# Altium schematic symbol library ADI.SchLib: 40 symbols
Pins are listed as number, name and electrical type; pins without a type are passive.

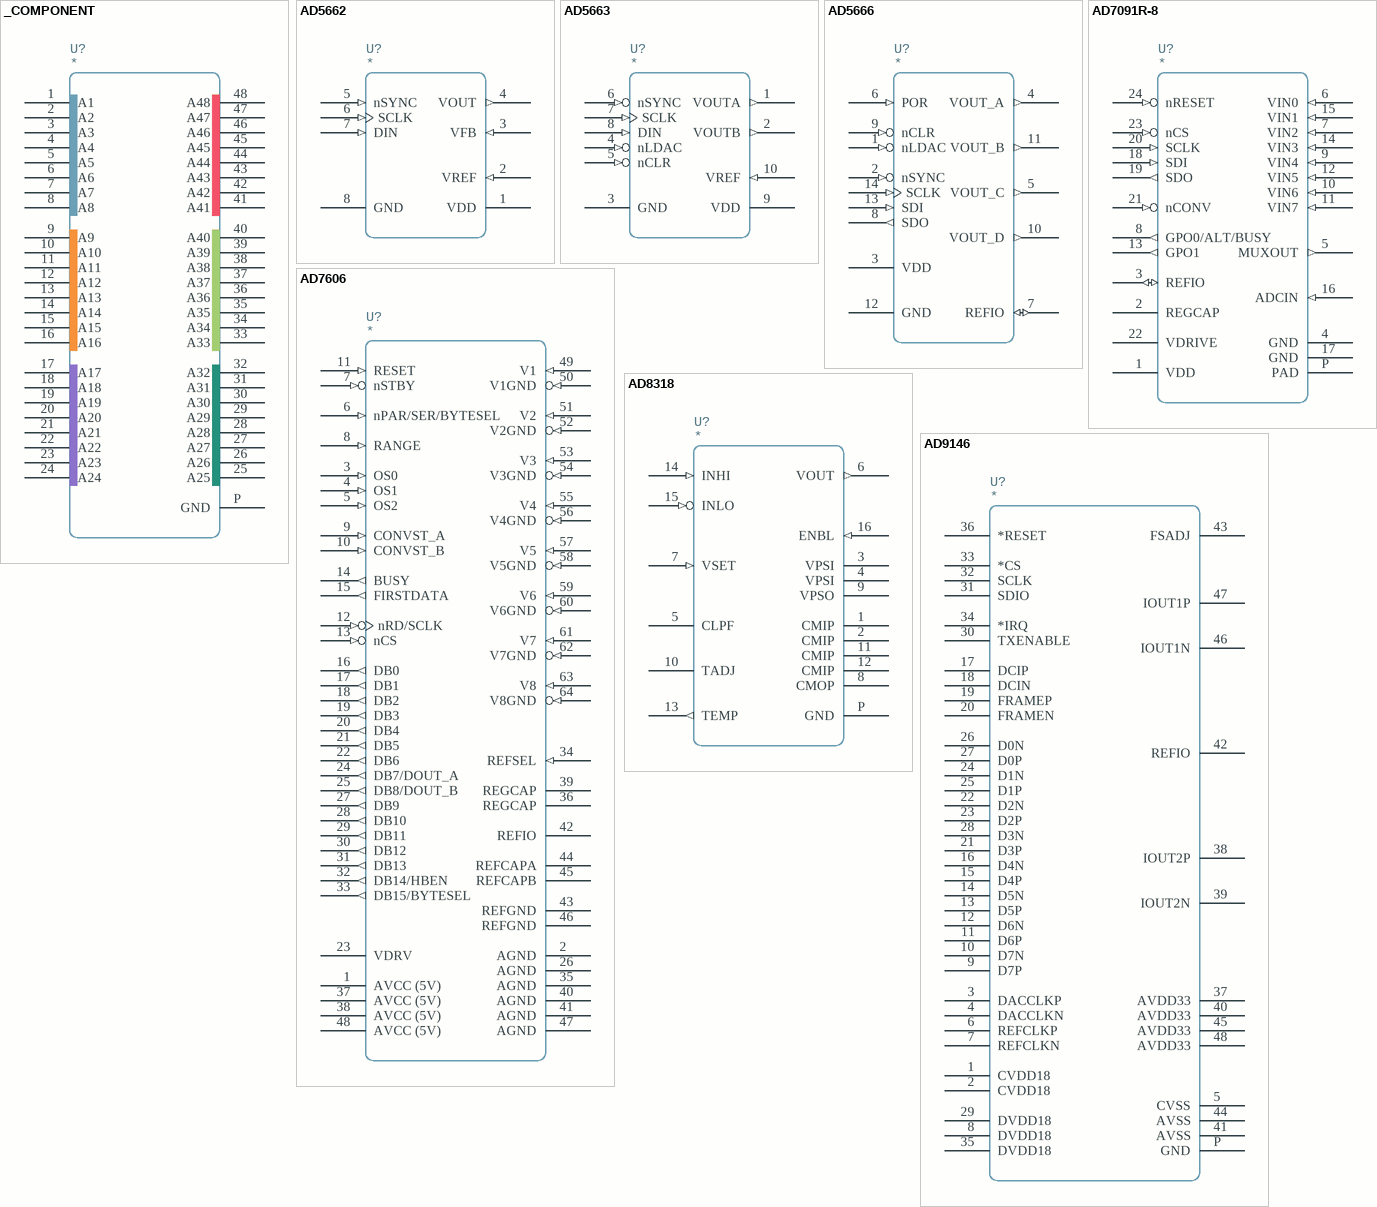
[diagram p0: symbols _COMPONENT to AD9146]

## _COMPONENT
designator U?
pins: 1 A1, 2 A2, 3 A3, 4 A4, 5 A5, 6 A6, 7 A7, 8 A8, 9 A9, 10 A10, 11 A11, 12 A12, 13 A13, 14 A14, 15 A15, 16 A16, 17 A17, 18 A18, 19 A19, 20 A20, 21 A21, 22 A22, 23 A23, 24 A24, 25 A25, 26 A26, 27 A27, 28 A28, 29 A29, 30 A30, 31 A31, 32 A32, 33 A33, 34 A34, 35 A35, 36 A36, 37 A37, 38 A38, 39 A39, 40 A40, 41 A41, 42 A42, 43 A43, 44 A44, 45 A45, 46 A46, 47 A47, 48 A48, P GND

## AD5662
designator U?
Symbol Date: *
pins: 1 VDD, 2 VREF (in), 3 VFB (in), 4 VOUT (out), 5 nSYNC (in), 6 SCLK (in), 7 DIN (in), 8 GND

## AD5663
designator U?
Symbol Date: *
pins: 1 VOUTA (out), 2 VOUTB (out), 3 GND, 4 nLDAC (in), 5 nCLR (in), 6 nSYNC (in), 7 SCLK (in), 8 DIN (in), 9 VDD, 10 VREF (in)

## AD5666
designator U?
Symbol Date: *
pins: 1 nLDAC (in), 2 nSYNC (in), 3 VDD, 4 VOUT_A (out), 5 VOUT_C (out), 6 POR (in), 7 REFIO (io), 8 SDO (out), 9 nCLR (in), 10 VOUT_D (out), 11 VOUT_B (out), 12 GND, 13 SDI (in), 14 SCLK (in)

## AD7091R-8
designator U?
pins: 1 VDD, 2 REGCAP, 3 REFIO (io), 4 GND, 5 MUXOUT (out), 6 VIN0 (in), 7 VIN2 (in), 8 GPO0/ALT/BUSY (out), 9 VIN4 (in), 10 VIN6 (in), 11 VIN7 (in), 12 VIN5 (in), 13 GPO1 (out), 14 VIN3 (in), 15 VIN1 (in), 16 ADCIN (in), 17 GND, 18 SDI (in), 19 SDO (out), 20 SCLK (in), 21 nCONV (in), 22 VDRIVE, 23 nCS (in), 24 nRESET (in), P PAD

## AD7606
designator U?
Symbol Date: *
pins: 1 AVCC (5V), 2 AGND, 3 OS0 (in), 4 OS1 (in), 5 OS2 (in), 6 nPAR/SER/BYTESEL (in), 7 nSTBY (in), 8 RANGE (in), 9 CONVST_A (in), 10 CONVST_B (in), 11 RESET (in), 12 nRD/SCLK (in), 13 nCS (in), 14 BUSY (out), 15 FIRSTDATA (out), 16 DB0 (out), 17 DB1 (out), 18 DB2 (out), 19 DB3 (out), 20 DB4 (out), 21 DB5 (out), 22 DB6 (out), 23 VDRV, 24 DB7/DOUT_A (out), 25 DB8/DOUT_B (out), 26 AGND, 27 DB9 (out), 28 DB10 (out), 29 DB11 (out), 30 DB12 (out), 31 DB13 (out), 32 DB14/HBEN (out), 33 DB15/BYTESEL (out), 34 REFSEL (in), 35 AGND, 36 REGCAP, 37 AVCC (5V), 38 AVCC (5V), 39 REGCAP, 40 AGND, 41 AGND, 42 REFIO, 43 REFGND, 44 REFCAPA, 45 REFCAPB, 46 REFGND, 47 AGND, 48 AVCC (5V), 49 V1 (in), 50 V1GND (in), 51 V2 (in), 52 V2GND (in), 53 V3 (in), 54 V3GND (in), 55 V4 (in), 56 V4GND (in), 57 V5 (in), 58 V5GND (in), 59 V6 (in), 60 V6GND (in), 61 V7 (in), 62 V7GND (in), 63 V8 (in), 64 V8GND (in)

## AD8318
designator U?
pins: 1 CMIP, 2 CMIP, 3 VPSI (power), 4 VPSI (power), 5 CLPF, 6 VOUT (out), 7 VSET (in), 8 CMOP, 9 VPSO (power), 10 TADJ, 11 CMIP, 12 CMIP, 13 TEMP (out), 14 INHI (in), 15 INLO (in), 16 ENBL (in), P GND

## AD9146
designator U?
Symbol Date: *
pins: 1 CVDD18, 2 CVDD18, 3 DACCLKP, 4 DACCLKN, 5 CVSS, 6 REFCLKP, 7 REFCLKN, 8 DVDD18, 9 D7P, 10 D7N, 11 D6P, 12 D6N, 13 D5P, 14 D5N, 15 D4P, 16 D4N, 17 DCIP, 18 DCIN, 19 FRAMEP, 20 FRAMEN, 21 D3P, 22 D2N, 23 D2P, 24 D1N, 25 D1P, 26 D0N, 27 D0P, 28 D3N, 29 DVDD18, 30 TXENABLE, 31 SDIO, 32 SCLK, 33 *CS, 34 *IRQ, 35 DVDD18, 36 *RESET, 37 AVDD33, 38 IOUT2P, 39 IOUT2N, 40 AVDD33, 41 AVSS, 42 REFIO, 43 FSADJ, 44 AVSS, 45 AVDD33, 46 IOUT1N, 47 IOUT1P, 48 AVDD33, P GND

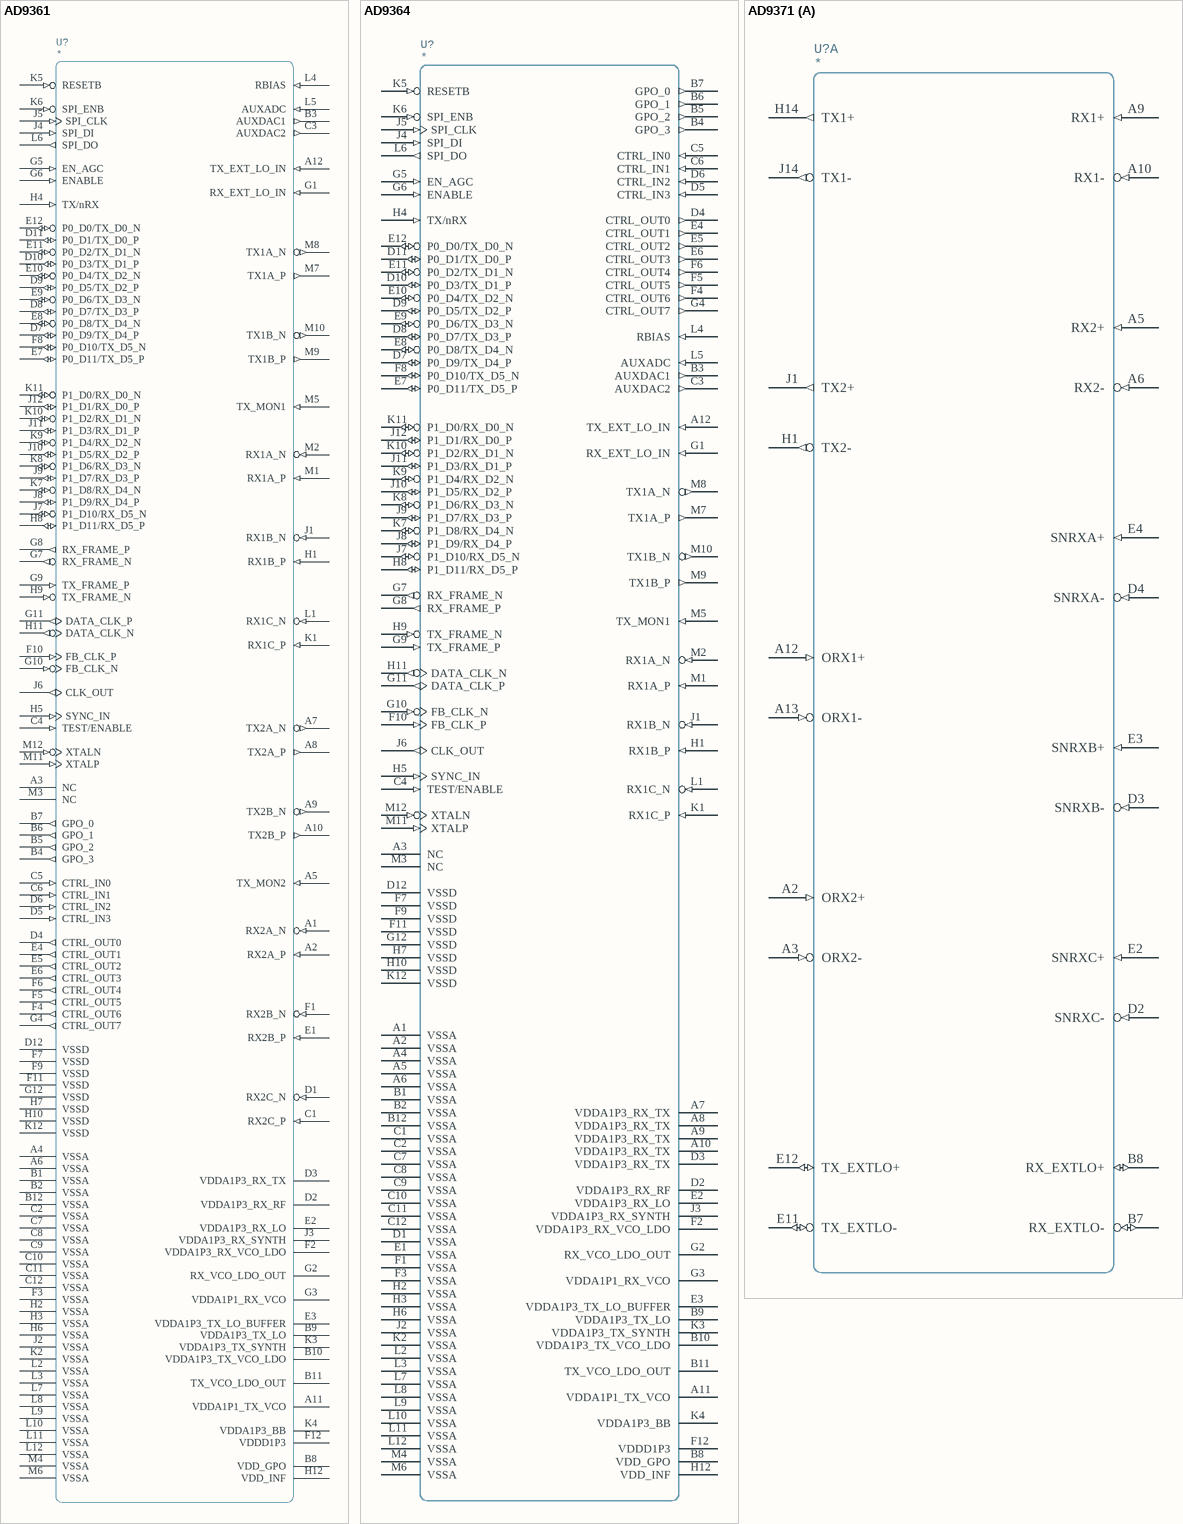
[diagram p1: symbols AD9361 to AD9371]

## AD9361
designator U?
Symbol Date: *
pins: A1 RX2A_N (in), A2 RX2A_P (in), A3 NC, A4 VSSA, A5 TX_MON2 (in), A6 VSSA, A7 TX2A_N (out), A8 TX2A_P (out), A9 TX2B_N (out), A10 TX2B_P (out), A11 VDDA1P1_TX_VCO, A12 TX_EXT_LO_IN (in), B1 VSSA, B2 VSSA, B3 AUXDAC1 (out), B4 GPO_3 (out), B5 GPO_2 (out), B6 GPO_1 (out), B7 GPO_0 (out), B8 VDD_GPO, B9 VDDA1P3_TX_LO, B10 VDDA1P3_TX_VCO_LDO, B11 TX_VCO_LDO_OUT, B12 VSSA, C1 RX2C_P (in), C2 VSSA, C3 AUXDAC2 (out), C4 TEST/ENABLE (in), C5 CTRL_IN0 (in), C6 CTRL_IN1 (in), C7 VSSA, C8 VSSA, C9 VSSA, C10 VSSA, C11 VSSA, C12 VSSA, D1 RX2C_N (in), D2 VDDA1P3_RX_RF, D3 VDDA1P3_RX_TX, D4 CTRL_OUT0 (out), D5 CTRL_IN3 (in), D6 CTRL_IN2 (in), D7 P0_D9/TX_D4_P (io), D8 P0_D7/TX_D3_P (io), D9 P0_D5/TX_D2_P (io), D10 P0_D3/TX_D1_P (io), D11 P0_D1/TX_D0_P (io), D12 VSSD, E1 RX2B_P (in), E2 VDDA1P3_RX_LO, E3 VDDA1P3_TX_LO_BUFFER, E4 CTRL_OUT1 (out), E5 CTRL_OUT2 (out), E6 CTRL_OUT3 (out), E7 P0_D11/TX_D5_P (io), E8 P0_D8/TX_D4_N (io), E9 P0_D6/TX_D3_N (io), E10 P0_D4/TX_D2_N (io), E11 P0_D2/TX_D1_N (io), E12 P0_D0/TX_D0_N (io), F1 RX2B_N (in), F2 VDDA1P3_RX_VCO_LDO, F3 VSSA, F4 CTRL_OUT6 (out), F5 CTRL_OUT5 (out), F6 CTRL_OUT4 (out), F7 VSSD, F8 P0_D10/TX_D5_N (io), F9 VSSD, F10 FB_CLK_P (in), F11 VSSD, F12 VDDD1P3, G1 RX_EXT_LO_IN (in), G2 RX_VCO_LDO_OUT, G3 VDDA1P1_RX_VCO, G4 CTRL_OUT7 (out), G5 EN_AGC (in), G6 ENABLE (in), G7 RX_FRAME_N (out), G8 RX_FRAME_P (out), G9 TX_FRAME_P (in), G10 FB_CLK_N (in), G11 DATA_CLK_P (out), G12 VSSD, H1 RX1B_P (in), H2 VSSA, H3 VSSA, H4 TX/nRX (in), H5 SYNC_IN (in), H6 VSSA, H7 VSSD, H8 P1_D11/RX_D5_P (io), H9 TX_FRAME_N (in), H10 VSSD, H11 DATA_CLK_N (out), H12 VDD_INF, J1 RX1B_N (in), J2 VSSA, J3 VDDA1P3_RX_SYNTH, J4 SPI_DI (in), J5 SPI_CLK (in), J6 CLK_OUT (out), J7 P1_D10/RX_D5_N (io), J8 P1_D9/RX_D4_P (io), J9 P1_D7/RX_D3_P (io), J10 P1_D5/RX_D2_P (io), J11 P1_D3/RX_D1_P (io), J12 P1_D1/RX_D0_P (io), K1 RX1C_P (in), K2 VSSA, K3 VDDA1P3_TX_SYNTH, K4 VDDA1P3_BB, K5 RESETB (in), K6 SPI_ENB (in), K7 P1_D8/RX_D4_N (io), K8 P1_D6/RX_D3_N (io), K9 P1_D4/RX_D2_N (io), K10 P1_D2/RX_D1_N (io), K11 P1_D0/RX_D0_N (io), K12 VSSD, L1 RX1C_N (in), L2 VSSA, L3 VSSA, L4 RBIAS (in), L5 AUXADC (in), L6 SPI_DO (out), L7 VSSA, L8 VSSA, L9 VSSA, L10 VSSA, L11 VSSA, L12 VSSA, M1 RX1A_P (in), M2 RX1A_N (in), M3 NC, M4 VSSA, M5 TX_MON1 (in), M6 VSSA, M7 TX1A_P (out), M8 TX1A_N (out), M9 TX1B_P (out), M10 TX1B_N (out), M11 XTALP (in), M12 XTALN (in)

## AD9364
designator U?
Symbol Date: *
pins: A1 VSSA, A2 VSSA, A3 NC, A4 VSSA, A5 VSSA, A6 VSSA, A7 VDDA1P3_RX_TX, A8 VDDA1P3_RX_TX, A9 VDDA1P3_RX_TX, A10 VDDA1P3_RX_TX, A11 VDDA1P1_TX_VCO, A12 TX_EXT_LO_IN (in), B1 VSSA, B2 VSSA, B3 AUXDAC1 (out), B4 GPO_3 (out), B5 GPO_2 (out), B6 GPO_1 (out), B7 GPO_0 (out), B8 VDD_GPO, B9 VDDA1P3_TX_LO, B10 VDDA1P3_TX_VCO_LDO, B11 TX_VCO_LDO_OUT, B12 VSSA, C1 VSSA, C2 VSSA, C3 AUXDAC2 (out), C4 TEST/ENABLE (in), C5 CTRL_IN0 (in), C6 CTRL_IN1 (in), C7 VSSA, C8 VSSA, C9 VSSA, C10 VSSA, C11 VSSA, C12 VSSA, D1 VSSA, D2 VDDA1P3_RX_RF, D3 VDDA1P3_RX_TX, D4 CTRL_OUT0 (out), D5 CTRL_IN3 (in), D6 CTRL_IN2 (in), D7 P0_D9/TX_D4_P (io), D8 P0_D7/TX_D3_P (io), D9 P0_D5/TX_D2_P (io), D10 P0_D3/TX_D1_P (io), D11 P0_D1/TX_D0_P (io), D12 VSSD, E1 VSSA, E2 VDDA1P3_RX_LO, E3 VDDA1P3_TX_LO_BUFFER, E4 CTRL_OUT1 (out), E5 CTRL_OUT2 (out), E6 CTRL_OUT3 (out), E7 P0_D11/TX_D5_P (io), E8 P0_D8/TX_D4_N (io), E9 P0_D6/TX_D3_N (io), E10 P0_D4/TX_D2_N (io), E11 P0_D2/TX_D1_N (io), E12 P0_D0/TX_D0_N (io), F1 VSSA, F2 VDDA1P3_RX_VCO_LDO, F3 VSSA, F4 CTRL_OUT6 (out), F5 CTRL_OUT5 (out), F6 CTRL_OUT4 (out), F7 VSSD, F8 P0_D10/TX_D5_N (io), F9 VSSD, F10 FB_CLK_P (in), F11 VSSD, F12 VDDD1P3, G1 RX_EXT_LO_IN (in), G2 RX_VCO_LDO_OUT, G3 VDDA1P1_RX_VCO, G4 CTRL_OUT7 (out), G5 EN_AGC (in), G6 ENABLE (in), G7 RX_FRAME_N (out), G8 RX_FRAME_P (out), G9 TX_FRAME_P (in), G10 FB_CLK_N (in), G11 DATA_CLK_P (out), G12 VSSD, H1 RX1B_P (in), H2 VSSA, H3 VSSA, H4 TX/nRX (in), H5 SYNC_IN (in), H6 VSSA, H7 VSSD, H8 P1_D11/RX_D5_P (io), H9 TX_FRAME_N (in), H10 VSSD, H11 DATA_CLK_N (out), H12 VDD_INF, J1 RX1B_N (in), J2 VSSA, J3 VDDA1P3_RX_SYNTH, J4 SPI_DI (in), J5 SPI_CLK (in), J6 CLK_OUT (out), J7 P1_D10/RX_D5_N (io), J8 P1_D9/RX_D4_P (io), J9 P1_D7/RX_D3_P (io), J10 P1_D5/RX_D2_P (io), J11 P1_D3/RX_D1_P (io), J12 P1_D1/RX_D0_P (io), K1 RX1C_P (in), K2 VSSA, K3 VDDA1P3_TX_SYNTH, K4 VDDA1P3_BB, K5 RESETB (in), K6 SPI_ENB (in), K7 P1_D8/RX_D4_N (io), K8 P1_D6/RX_D3_N (io), K9 P1_D4/RX_D2_N (io), K10 P1_D2/RX_D1_N (io), K11 P1_D0/RX_D0_N (io), K12 VSSD, L1 RX1C_N (in), L2 VSSA, L3 VSSA, L4 RBIAS (in), L5 AUXADC (in), L6 SPI_DO (out), L7 VSSA, L8 VSSA, L9 VSSA, L10 VSSA, L11 VSSA, L12 VSSA, M1 RX1A_P (in), M2 RX1A_N (in), M3 NC, M4 VSSA, M5 TX_MON1 (in), M6 VSSA, M7 TX1A_P (out), M8 TX1A_N (out), M9 TX1B_P (out), M10 TX1B_N (out), M11 XTALP (in), M12 XTALN (in)

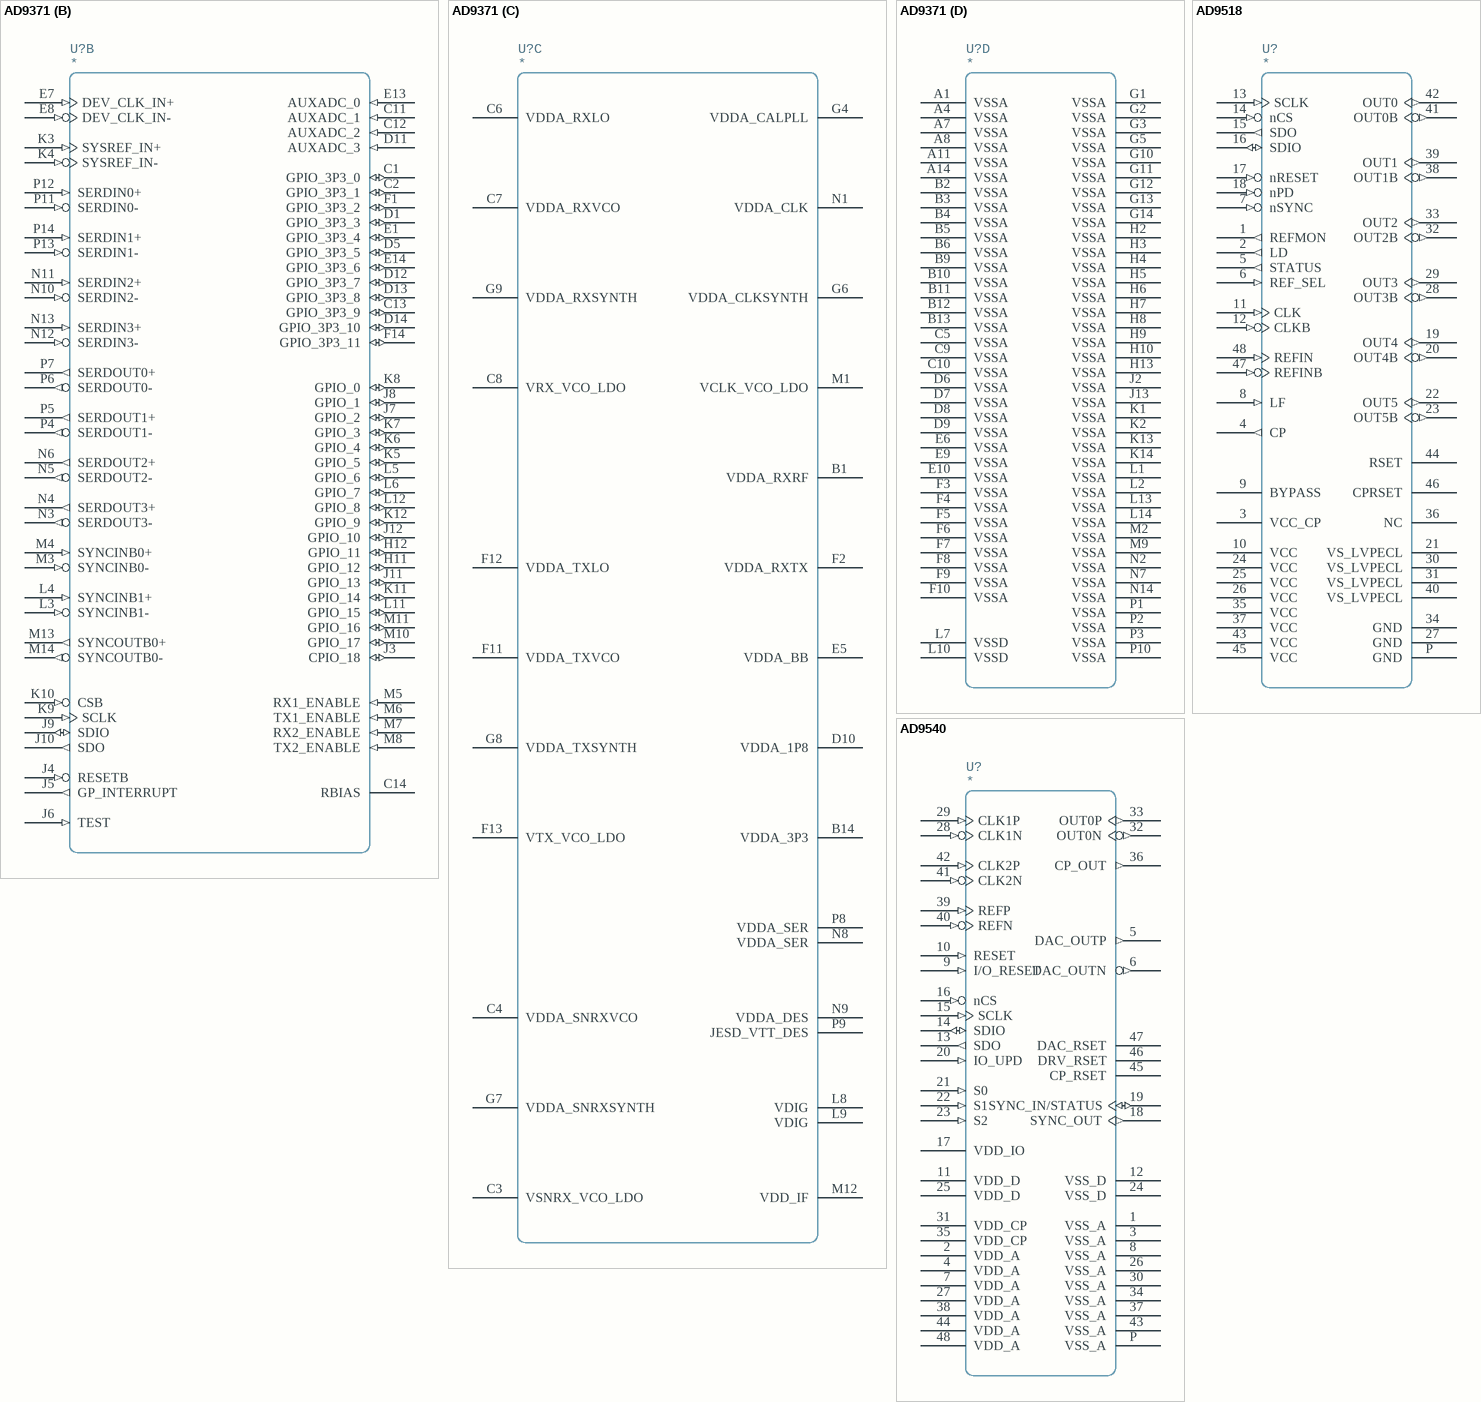
[diagram p2: symbols AD9371 to AD9540]

## AD9371
designator U?
part A pins: A2 ORX2+ (in), A3 ORX2- (in), A5 RX2+ (in), A6 RX2- (in), A9 RX1+ (in), A10 RX1- (in), A12 ORX1+ (in), A13 ORX1- (in), B7 RX_EXTLO- (io), B8 RX_EXTLO+ (io), D2 SNRXC- (in), D3 SNRXB- (in), D4 SNRXA- (in), E2 SNRXC+ (in), E3 SNRXB+ (in), E4 SNRXA+ (in), E11 TX_EXTLO- (io), E12 TX_EXTLO+ (io), H1 TX2- (out), H14 TX1+ (out), J1 TX2+ (out), J14 TX1- (out)
part B pins: C1 GPIO_3P3_0 (io), C2 GPIO_3P3_1 (io), C11 AUXADC_1 (in), C12 AUXADC_2 (in), C13 GPIO_3P3_9 (io), C14 RBIAS, D1 GPIO_3P3_3 (io), D5 GPIO_3P3_5 (io), D11 AUXADC_3 (in), D12 GPIO_3P3_7 (io), D13 GPIO_3P3_8 (io), D14 GPIO_3P3_10 (io), E1 GPIO_3P3_4 (io), E7 DEV_CLK_IN+ (in), E8 DEV_CLK_IN- (in), E13 AUXADC_0 (in), E14 GPIO_3P3_6 (io), F1 GPIO_3P3_2 (io), F14 GPIO_3P3_11 (io), H11 GPIO_12 (io), H12 GPIO_11 (io), J3 CPIO_18 (io), J4 RESETB (in), J5 GP_INTERRUPT (out), J6 TEST (in), J7 GPIO_2 (io), J8 GPIO_1 (io), J9 SDIO (io), J10 SDO (out), J11 GPIO_13 (io), J12 GPIO_10 (io), K3 SYSREF_IN+ (in), K4 SYSREF_IN- (in), K5 GPIO_5 (io), K6 GPIO_4 (io), K7 GPIO_3 (io), K8 GPIO_0 (io), K9 SCLK (in), K10 CSB (in), K11 GPIO_14 (io), K12 GPIO_9 (io), L3 SYNCINB1- (in), L4 SYNCINB1+ (in), L5 GPIO_6 (io), L6 GPIO_7 (io), L11 GPIO_15 (io), L12 GPIO_8 (io), M3 SYNCINB0- (in), M4 SYNCINB0+ (in), M5 RX1_ENABLE (in), M6 TX1_ENABLE (in), M7 RX2_ENABLE (in), M8 TX2_ENABLE (in), M10 GPIO_17 (io), M11 GPIO_16 (io), M13 SYNCOUTB0+ (out), M14 SYNCOUTB0- (out), N3 SERDOUT3- (out), N4 SERDOUT3+ (out), N5 SERDOUT2- (out), N6 SERDOUT2+ (out), N10 SERDIN2- (in), N11 SERDIN2+ (in), N12 SERDIN3- (in), N13 SERDIN3+ (in), P4 SERDOUT1- (out), P5 SERDOUT1+ (out), P6 SERDOUT0- (out), P7 SERDOUT0+ (out), P11 SERDIN0- (in), P12 SERDIN0+ (in), P13 SERDIN1- (in), P14 SERDIN1+ (in)
part C pins: B1 VDDA_RXRF, B14 VDDA_3P3, C3 VSNRX_VCO_LDO, C4 VDDA_SNRXVCO, C6 VDDA_RXLO, C7 VDDA_RXVCO, C8 VRX_VCO_LDO, D10 VDDA_1P8, E5 VDDA_BB, F2 VDDA_RXTX, F11 VDDA_TXVCO, F12 VDDA_TXLO, F13 VTX_VCO_LDO, G4 VDDA_CALPLL, G6 VDDA_CLKSYNTH, G7 VDDA_SNRXSYNTH, G8 VDDA_TXSYNTH, G9 VDDA_RXSYNTH, L8 VDIG, L9 VDIG, M1 VCLK_VCO_LDO, M12 VDD_IF, N1 VDDA_CLK, N8 VDDA_SER, N9 VDDA_DES, P8 VDDA_SER, P9 JESD_VTT_DES
part D pins: A1 VSSA, A4 VSSA, A7 VSSA, A8 VSSA, A11 VSSA, A14 VSSA, B2 VSSA, B3 VSSA, B4 VSSA, B5 VSSA, B6 VSSA, B9 VSSA, B10 VSSA, B11 VSSA, B12 VSSA, B13 VSSA, C5 VSSA, C9 VSSA, C10 VSSA, D6 VSSA, D7 VSSA, D8 VSSA, D9 VSSA, E6 VSSA, E9 VSSA, E10 VSSA, F3 VSSA, F4 VSSA, F5 VSSA, F6 VSSA, F7 VSSA, F8 VSSA, F9 VSSA, F10 VSSA, G1 VSSA, G2 VSSA, G3 VSSA, G5 VSSA, G10 VSSA, G11 VSSA, G12 VSSA, G13 VSSA, G14 VSSA, H2 VSSA, H3 VSSA, H4 VSSA, H5 VSSA, H6 VSSA, H7 VSSA, H8 VSSA, H9 VSSA, H10 VSSA, H13 VSSA, J2 VSSA, J13 VSSA, K1 VSSA, K2 VSSA, K13 VSSA, K14 VSSA, L1 VSSA, L2 VSSA, L7 VSSD, L10 VSSD, L13 VSSA, L14 VSSA, M2 VSSA, M9 VSSA, N2 VSSA, N7 VSSA, N14 VSSA, P1 VSSA, P2 VSSA, P3 VSSA, P10 VSSA

## AD9518
designator U?
Symbol Date: *
pins: 1 REFMON (out), 2 LD (out), 3 VCC_CP, 4 CP (out), 5 STATUS (out), 6 REF_SEL (in), 7 nSYNC (in), 8 LF (in), 9 BYPASS, 10 VCC, 11 CLK (in), 12 CLKB (in), 13 SCLK (in), 14 nCS (in), 15 SDO (out), 16 SDIO (io), 17 nRESET (in), 18 nPD (in), 19 OUT4 (out), 20 OUT4B (out), 21 VS_LVPECL, 22 OUT5 (out), 23 OUT5B (out), 24 VCC, 25 VCC, 26 VCC, 27 GND, 28 OUT3B (out), 29 OUT3 (out), 30 VS_LVPECL, 31 VS_LVPECL, 32 OUT2B (out), 33 OUT2 (out), 34 GND, 35 VCC, 36 NC, 37 VCC, 38 OUT1B (out), 39 OUT1 (out), 40 VS_LVPECL, 41 OUT0B (out), 42 OUT0 (out), 43 VCC, 44 RSET, 45 VCC, 46 CPRSET, 47 REFINB (in), 48 REFIN (in), P GND

## AD9540
designator U?
Symbol Date: *
pins: 1 VSS_A, 2 VDD_A, 3 VSS_A, 4 VDD_A, 5 DAC_OUTP (out), 6 DAC_OUTN (out), 7 VDD_A, 8 VSS_A, 9 I/O_RESET (in), 10 RESET (in), 11 VDD_D, 12 VSS_D, 13 SDO (out), 14 SDIO (io), 15 SCLK (in), 16 nCS (in), 17 VDD_IO, 18 SYNC_OUT (out), 19 SYNC_IN/STATUS (io), 20 IO_UPD (in), 21 S0 (in), 22 S1 (in), 23 S2 (in), 24 VSS_D, 25 VDD_D, 26 VSS_A, 27 VDD_A, 28 CLK1N (in), 29 CLK1P (in), 30 VSS_A, 31 VDD_CP, 32 OUT0N (out), 33 OUT0P (out), 34 VSS_A, 35 VDD_CP, 36 CP_OUT (out), 37 VSS_A, 38 VDD_A, 39 REFP (in), 40 REFN (in), 41 CLK2N (in), 42 CLK2P (in), 43 VSS_A, 44 VDD_A, 45 CP_RSET, 46 DRV_RSET, 47 DAC_RSET, 48 VDD_A, P VSS_A

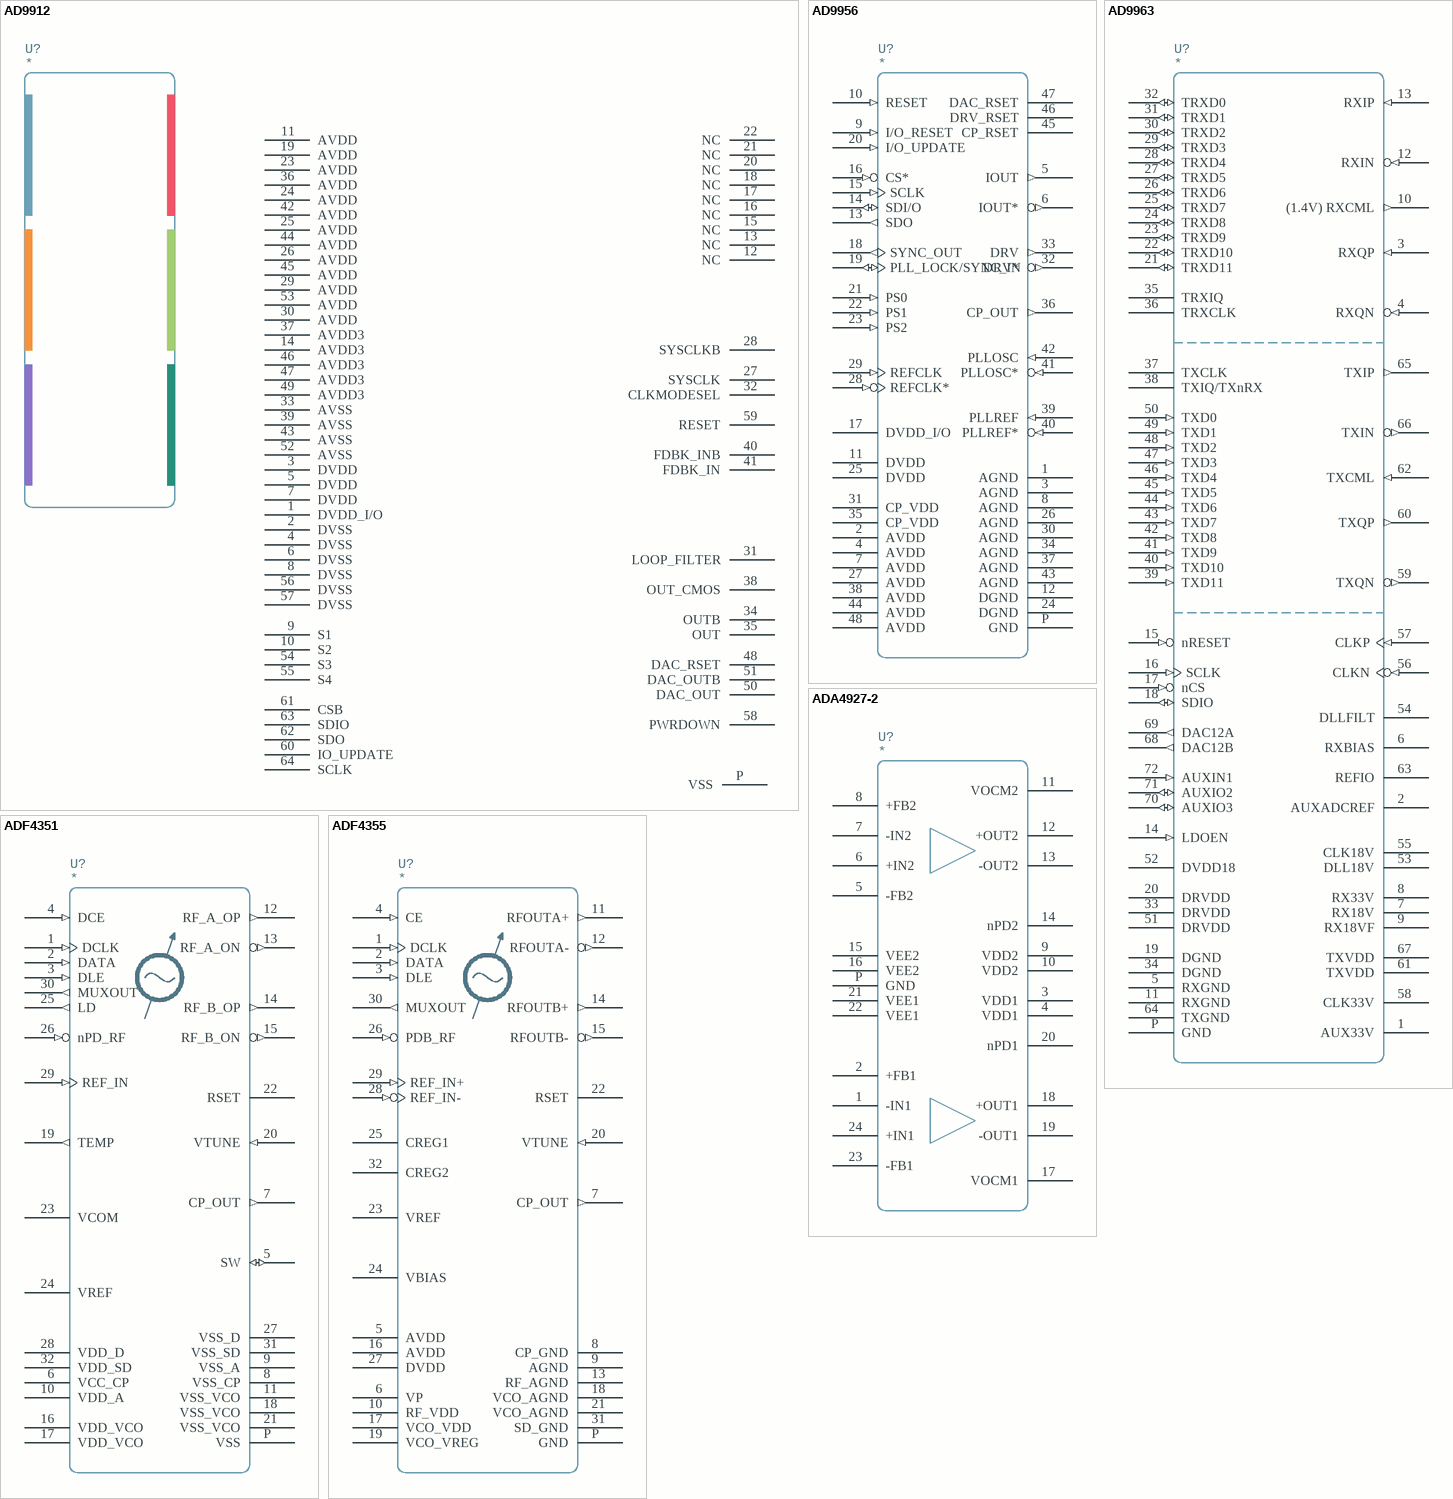
[diagram p3: symbols AD9912 to ADF4355]

## AD9912
designator U?
pins: 1 DVDD_I/O, 2 DVSS, 3 DVDD, 4 DVSS, 5 DVDD, 6 DVSS, 7 DVDD, 8 DVSS, 9 S1, 10 S2, 11 AVDD, 12 NC, 13 NC, 14 AVDD3, 15 NC, 16 NC, 17 NC, 18 NC, 19 AVDD, 20 NC, 21 NC, 22 NC, 23 AVDD, 24 AVDD, 25 AVDD, 26 AVDD, 27 SYSCLK, 28 SYSCLKB, 29 AVDD, 30 AVDD, 31 LOOP_FILTER, 32 CLKMODESEL, 33 AVSS, 34 OUTB, 35 OUT, 36 AVDD, 37 AVDD3, 38 OUT_CMOS, 39 AVSS, 40 FDBK_INB, 41 FDBK_IN, 42 AVDD, 43 AVSS, 44 AVDD, 45 AVDD, 46 AVDD3, 47 AVDD3, 48 DAC_RSET, 49 AVDD3, 50 DAC_OUT, 51 DAC_OUTB, 52 AVSS, 53 AVDD, 54 S3, 55 S4, 56 DVSS, 57 DVSS, 58 PWRDOWN, 59 RESET, 60 IO_UPDATE, 61 CSB, 62 SDO, 63 SDIO, 64 SCLK, P VSS

## AD9956
designator U?
Symbol Date: *
pins: 1 AGND, 2 AVDD (power), 3 AGND, 4 AVDD (power), 5 IOUT (out), 6 IOUT* (out), 7 AVDD (power), 8 AGND, 9 I/O_RESET (in), 10 RESET (in), 11 DVDD (power), 12 DGND, 13 SDO (out), 14 SDI/O (io), 15 SCLK (in), 16 CS* (in), 17 DVDD_I/O (power), 18 SYNC_OUT (out), 19 PLL_LOCK/SYNC_IN (io), 20 I/O_UPDATE (in), 21 PS0 (in), 22 PS1 (in), 23 PS2 (in), 24 DGND, 25 DVDD (power), 26 AGND, 27 AVDD (power), 28 REFCLK* (in), 29 REFCLK (in), 30 AGND, 31 CP_VDD (power), 32 DRV* (out), 33 DRV (out), 34 AGND, 35 CP_VDD (power), 36 CP_OUT (out), 37 AGND, 38 AVDD (power), 39 PLLREF (in), 40 PLLREF* (in), 41 PLLOSC* (in), 42 PLLOSC (in), 43 AGND, 44 AVDD (power), 45 CP_RSET, 46 DRV_RSET, 47 DAC_RSET, 48 AVDD (power), P GND

## AD9963
designator U?
Symbol Date: *
pins: 1 AUX33V, 2 AUXADCREF, 3 RXQP (in), 4 RXQN (in), 5 RXGND, 6 RXBIAS, 7 RX18V, 8 RX33V, 9 RX18VF, 10 (1.4V) RXCML (out), 11 RXGND, 12 RXIN (in), 13 RXIP (in), 14 LDOEN (in), 15 nRESET (in), 16 SCLK (in), 17 nCS (in), 18 SDIO (io), 19 DGND, 20 DRVDD, 21 TRXD11 (io), 22 TRXD10 (io), 23 TRXD9 (io), 24 TRXD8 (io), 25 TRXD7 (io), 26 TRXD6 (io), 27 TRXD5 (io), 28 TRXD4 (io), 29 TRXD3 (io), 30 TRXD2 (io), 31 TRXD1 (io), 32 TRXD0 (io), 33 DRVDD, 34 DGND, 35 TRXIQ, 36 TRXCLK, 37 TXCLK, 38 TXIQ/TXnRX, 39 TXD11 (in), 40 TXD10 (in), 41 TXD9 (in), 42 TXD8 (in), 43 TXD7 (in), 44 TXD6 (in), 45 TXD5 (in), 46 TXD4 (in), 47 TXD3 (in), 48 TXD2 (in), 49 TXD1 (in), 50 TXD0 (in), 51 DRVDD, 52 DVDD18, 53 DLL18V, 54 DLLFILT, 55 CLK18V, 56 CLKN (in), 57 CLKP (in), 58 CLK33V, 59 TXQN (out), 60 TXQP (out), 61 TXVDD, 62 TXCML (in), 63 REFIO, 64 TXGND, 65 TXIP (out), 66 TXIN (out), 67 TXVDD, 68 DAC12B (out), 69 DAC12A (out), 70 AUXIO3 (io), 71 AUXIO2 (io), 72 AUXIN1 (in), P GND

## ADA4927-2
designator U?
IC,SM,ADA4927-2YCPZ,DIFFERENTIAL ADC DRIVER,DUAL,24LFCSP_VQH=.039IN
footprint QFN-4-24
pins: 1 -IN1, 2 +FB1, 3 VDD1, 4 VDD1, 5 -FB2, 6 +IN2, 7 -IN2, 8 +FB2, 9 VDD2, 10 VDD2, 11 VOCM2, 12 +OUT2, 13 -OUT2, 14 nPD2, 15 VEE2, 16 VEE2, 17 VOCM1, 18 +OUT1, 19 -OUT1, 20 nPD1, 21 VEE1, 22 VEE1, 23 -FB1, 24 +IN1, P GND

## ADF4351
designator U?
Symbol Date: *
pins: 1 DCLK (in), 2 DATA (in), 3 DLE (in), 4 DCE (in), 5 SW (io), 6 VCC_CP, 7 CP_OUT (out), 8 VSS_CP, 9 VSS_A, 10 VDD_A, 11 VSS_VCO, 12 RF_A_OP (out), 13 RF_A_ON (out), 14 RF_B_OP (out), 15 RF_B_ON (out), 16 VDD_VCO, 17 VDD_VCO, 18 VSS_VCO, 19 TEMP (out), 20 VTUNE (in), 21 VSS_VCO, 22 RSET, 23 VCOM, 24 VREF, 25 LD (out), 26 nPD_RF (in), 27 VSS_D, 28 VDD_D, 29 REF_IN (in), 30 MUXOUT (out), 31 VSS_SD, 32 VDD_SD, P VSS
2 alternate drawings of the same symbol

## ADF4355
designator U?
Symbol Date: *
pins: 1 DCLK (in), 2 DATA (in), 3 DLE (in), 4 CE (in), 5 AVDD, 6 VP, 7 CP_OUT (out), 8 CP_GND, 9 AGND, 10 RF_VDD, 11 RFOUTA+ (out), 12 RFOUTA- (out), 13 RF_AGND, 14 RFOUTB+ (out), 15 RFOUTB- (out), 16 AVDD, 17 VCO_VDD, 18 VCO_AGND, 19 VCO_VREG, 20 VTUNE (in), 21 VCO_AGND, 22 RSET, 23 VREF, 24 VBIAS, 25 CREG1, 26 PDB_RF (in), 27 DVDD, 28 REF_IN- (in), 29 REF_IN+ (in), 30 MUXOUT (out), 31 SD_GND, 32 CREG2, P GND

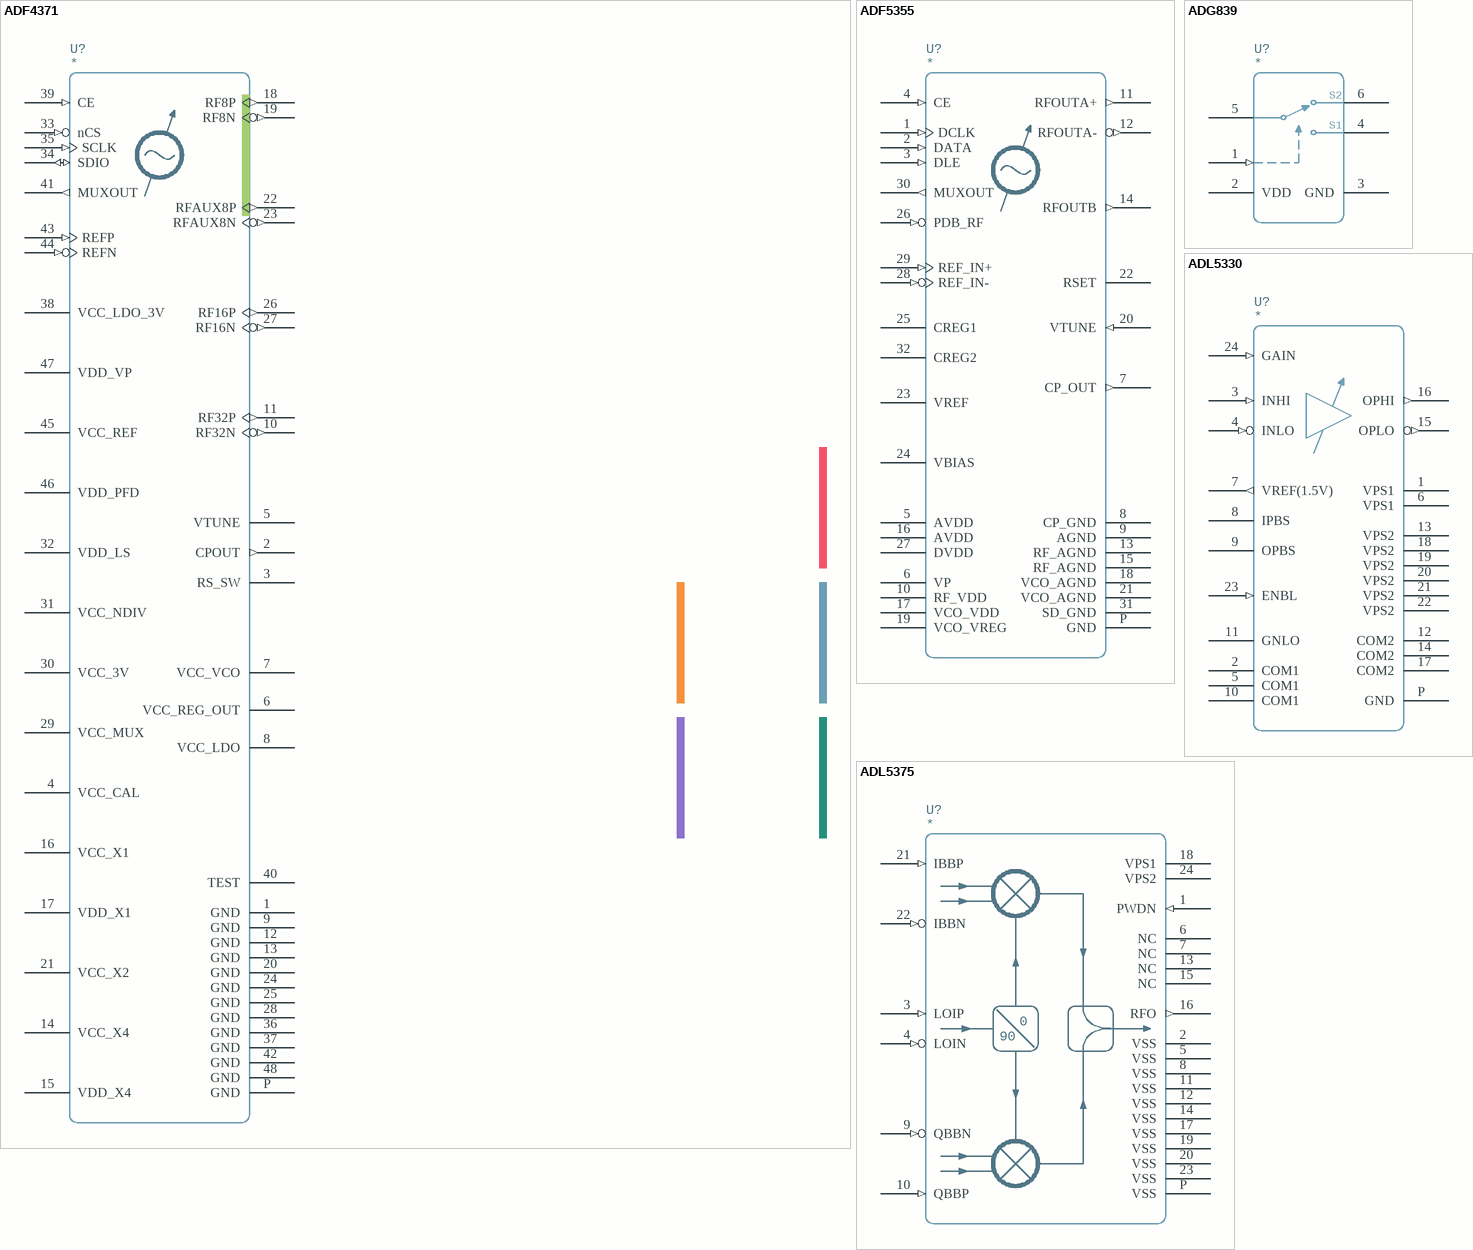
[diagram p4: symbols ADF4371 to ADL5375]

## ADF4371
designator U?
pins: 1 GND, 2 CPOUT (out), 3 RS_SW, 4 VCC_CAL, 5 VTUNE, 6 VCC_REG_OUT, 7 VCC_VCO, 8 VCC_LDO, 9 GND, 10 RF32N (out), 11 RF32P (out), 12 GND, 13 GND, 14 VCC_X4, 15 VDD_X4, 16 VCC_X1, 17 VDD_X1, 18 RF8P (out), 19 RF8N (out), 20 GND, 21 VCC_X2, 22 RFAUX8P (out), 23 RFAUX8N (out), 24 GND, 25 GND, 26 RF16P (out), 27 RF16N (out), 28 GND, 29 VCC_MUX, 30 VCC_3V, 31 VCC_NDIV, 32 VDD_LS, 33 nCS (in), 34 SDIO (io), 35 SCLK (in), 36 GND, 37 GND, 38 VCC_LDO_3V, 39 CE (in), 40 TEST, 41 MUXOUT (out), 42 GND, 43 REFP (in), 44 REFN (in), 45 VCC_REF, 46 VDD_PFD, 47 VDD_VP, 48 GND, P GND

## ADF5355
designator U?
Symbol Date: *
pins: 1 DCLK (in), 2 DATA (in), 3 DLE (in), 4 CE (in), 5 AVDD, 6 VP, 7 CP_OUT (out), 8 CP_GND, 9 AGND, 10 RF_VDD, 11 RFOUTA+ (out), 12 RFOUTA- (out), 13 RF_AGND, 14 RFOUTB (out), 15 RF_AGND, 16 AVDD, 17 VCO_VDD, 18 VCO_AGND, 19 VCO_VREG, 20 VTUNE (in), 21 VCO_AGND, 22 RSET, 23 VREF, 24 VBIAS, 25 CREG1, 26 PDB_RF (in), 27 DVDD, 28 REF_IN- (in), 29 REF_IN+ (in), 30 MUXOUT (out), 31 SD_GND, 32 CREG2, P GND

## ADG839
designator U?
pins: 1 IN (in), 2 VDD, 3 GND, 4 S1, 5 D, 6 S2

## ADL5330
designator U?
pins: 1 VPS1, 2 COM1, 3 INHI (in), 4 INLO (in), 5 COM1, 6 VPS1, 7 VREF(1.5V) (out), 8 IPBS, 9 OPBS, 10 COM1, 11 GNLO, 12 COM2, 13 VPS2, 14 COM2, 15 OPLO (out), 16 OPHI (out), 17 COM2, 18 VPS2, 19 VPS2, 20 VPS2, 21 VPS2, 22 VPS2, 23 ENBL (in), 24 GAIN (in), P GND

## ADL5375
designator U?
IC,SM,ADL5375-05ACPZ,BROADBAND QUADRATURE MODULATOR,400MHZ-6GHZ,24LFCSP,H=.039IN
pins: 1 PWDN (in), 2 VSS, 3 LOIP (in), 4 LOIN (in), 5 VSS, 6 NC, 7 NC, 8 VSS, 9 QBBN (in), 10 QBBP (in), 11 VSS, 12 VSS, 13 NC, 14 VSS, 15 NC, 16 RFO (out), 17 VSS, 18 VPS1, 19 VSS, 20 VSS, 21 IBBP (in), 22 IBBN (in), 23 VSS, 24 VPS2, P VSS
text: 0; 90

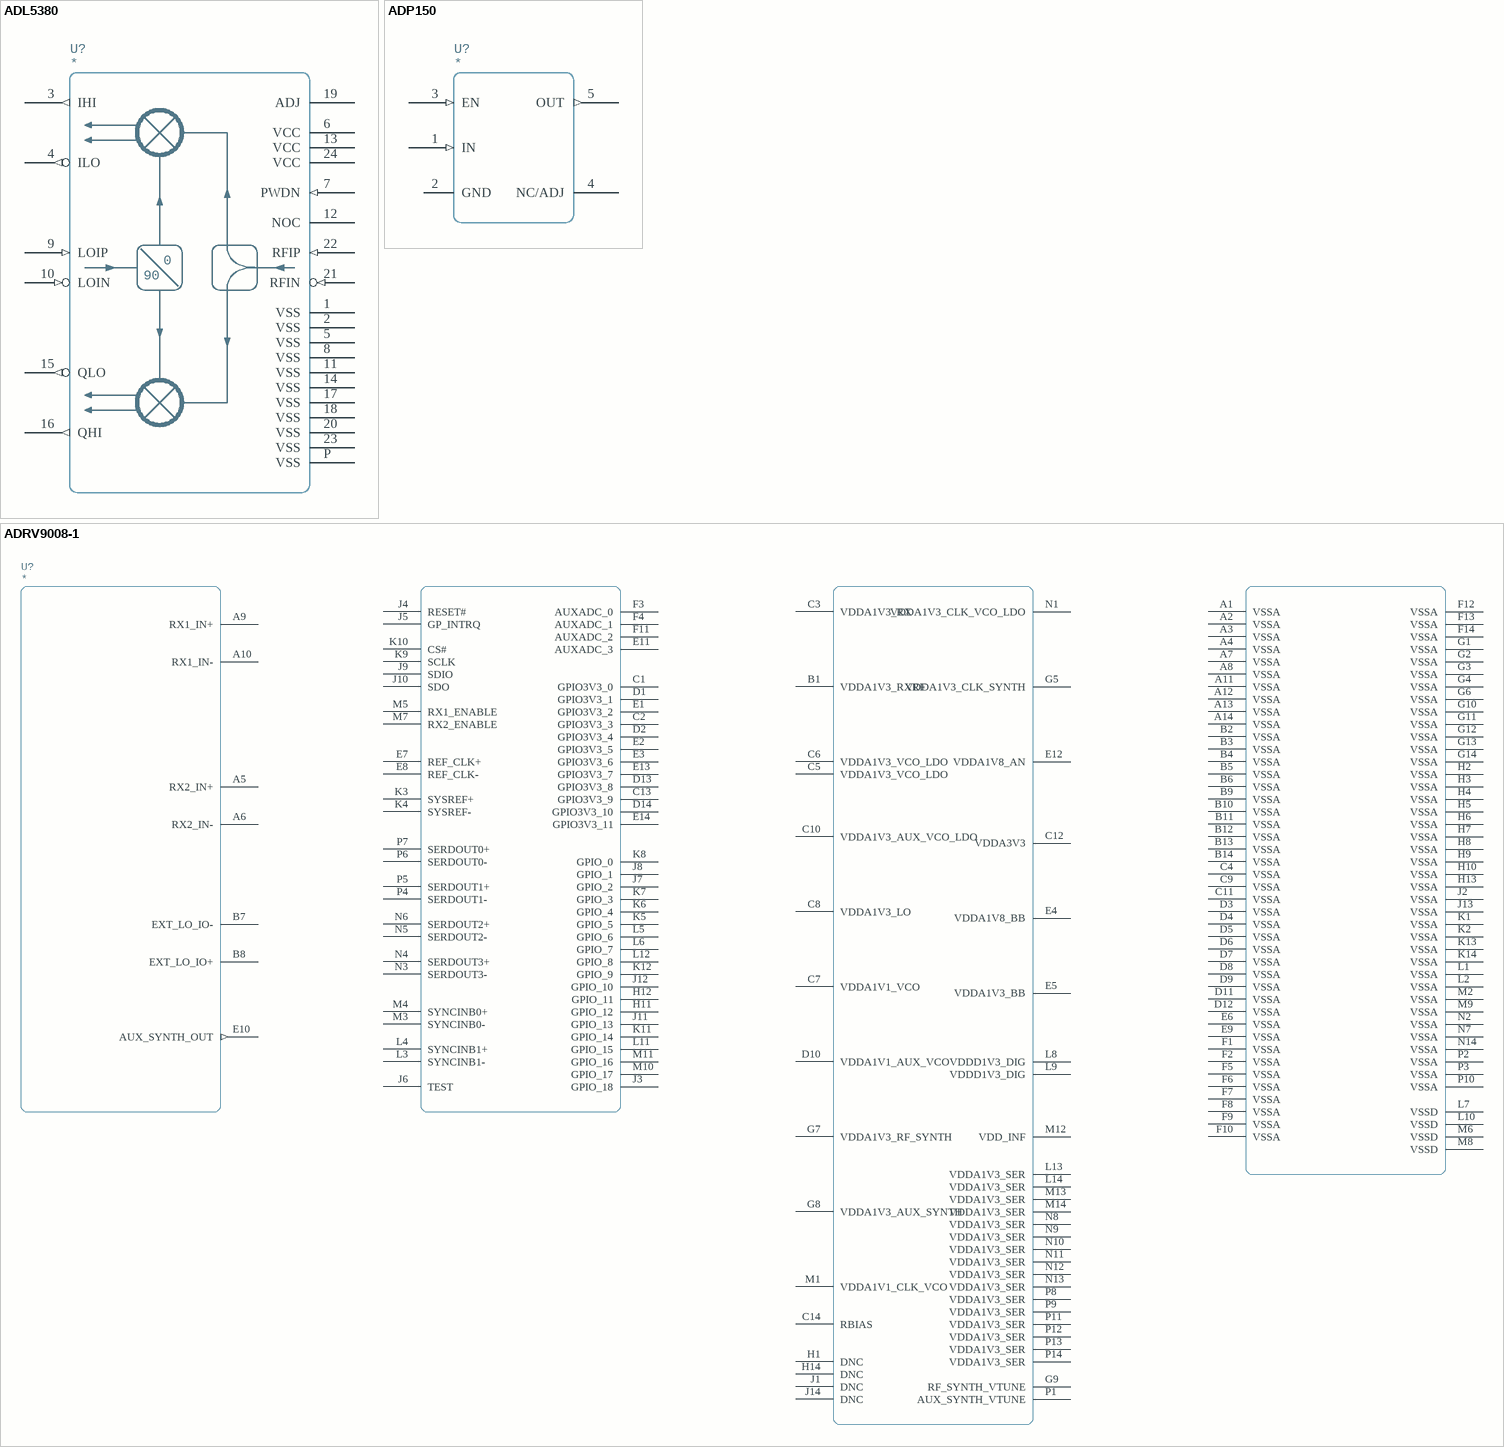
[diagram p5: symbols ADL5380 to ADRV9008-1]

## ADL5380
designator U?
IC,SM,ADL5380ACPZ,BROADBAND QUADRATURE DEMODULATOR,400MHZ-6GHZ,24LFCSP,H=.039IN
pins: 1 VSS, 2 VSS, 3 IHI (out), 4 ILO (out), 5 VSS, 6 VCC, 7 PWDN (in), 8 VSS, 9 LOIP (in), 10 LOIN (in), 11 VSS, 12 NOC, 13 VCC, 14 VSS, 15 QLO (out), 16 QHI (out), 17 VSS, 18 VSS, 19 ADJ, 20 VSS, 21 RFIN (in), 22 RFIP (in), 23 VSS, 24 VCC, P VSS
text: 0; 90

## ADP150
designator U?
pins: 1 IN (in), 2 GND, 3 EN (in), 4 NC/ADJ, 5 OUT (out)

## ADRV9008-1
designator U?
pins: A1 VSSA, A2 VSSA, A3 VSSA, A4 VSSA, A5 RX2_IN+, A6 RX2_IN-, A7 VSSA, A8 VSSA, A9 RX1_IN+, A10 RX1_IN-, A11 VSSA, A12 VSSA, A13 VSSA, A14 VSSA, B1 VDDA1V3_RXRF, B2 VSSA, B3 VSSA, B4 VSSA, B5 VSSA, B6 VSSA, B7 EXT_LO_IO-, B8 EXT_LO_IO+, B9 VSSA, B10 VSSA, B11 VSSA, B12 VSSA, B13 VSSA, B14 VSSA, C1 GPIO3V3_0, C2 GPIO3V3_3, C3 VDDA1V3_RX, C4 VSSA, C5 VDDA1V3_VCO_LDO, C6 VDDA1V3_VCO_LDO, C7 VDDA1V1_VCO, C8 VDDA1V3_LO, C9 VSSA, C10 VDDA1V3_AUX_VCO_LDO, C11 VSSA, C12 VDDA3V3, C13 GPIO3V3_9, C14 RBIAS, D1 GPIO3V3_1, D2 GPIO3V3_4, D3 VSSA, D4 VSSA, D5 VSSA, D6 VSSA, D7 VSSA, D8 VSSA, D9 VSSA, D10 VDDA1V1_AUX_VCO, D11 VSSA, D12 VSSA, D13 GPIO3V3_8, D14 GPIO3V3_10, E1 GPIO3V3_2, E2 GPIO3V3_5, E3 GPIO3V3_6, E4 VDDA1V8_BB, E5 VDDA1V3_BB, E6 VSSA, E7 REF_CLK+, E8 REF_CLK-, E9 VSSA, E10 AUX_SYNTH_OUT (out) "Auxiliary PLL Output. When unused, do not connect this pin.", E11 AUXADC_3, E12 VDDA1V8_AN, E13 GPIO3V3_7, E14 GPIO3V3_11, F1 VSSA, F2 VSSA, F3 AUXADC_0, F4 AUXADC_1, F5 VSSA, F6 VSSA, F7 VSSA, F8 VSSA, F9 VSSA, F10 VSSA, F11 AUXADC_2, F12 VSSA, F13 VSSA, F14 VSSA, G1 VSSA, G2 VSSA, G3 VSSA, G4 VSSA, G5 VDDA1V3_CLK_SYNTH, G6 VSSA, G7 VDDA1V3_RF_SYNTH, G8 VDDA1V3_AUX_SYNTH, G9 RF_SYNTH_VTUNE, G10 VSSA, G11 VSSA, G12 VSSA, G13 VSSA, G14 VSSA, H1 DNC, H2 VSSA, H3 VSSA, H4 VSSA, H5 VSSA, H6 VSSA, H7 VSSA, H8 VSSA, H9 VSSA, H10 VSSA, H11 GPIO_12, H12 GPIO_11, H13 VSSA, H14 DNC, J1 DNC, J2 VSSA, J3 GPIO_18, J4 RESET#, J5 GP_INTRQ, J6 TEST, J7 GPIO_2, J8 GPIO_1, J9 SDIO, J10 SDO, J11 GPIO_13, J12 GPIO_10, J13 VSSA, J14 DNC, K1 VSSA, K2 VSSA, K3 SYSREF+, K4 SYSREF-, K5 GPIO_5, K6 GPIO_4, K7 GPIO_3, K8 GPIO_0, K9 SCLK, K10 CS#, K11 GPIO_14, K12 GPIO_9, K13 VSSA, K14 VSSA, L1 VSSA, L2 VSSA, L3 SYNCINB1-, L4 SYNCINB1+, L5 GPIO_6, L6 GPIO_7, L7 VSSD, L8 VDDD1V3_DIG, L9 VDDD1V3_DIG, L10 VSSD, L11 GPIO_15, L12 GPIO_8, L13 VDDA1V3_SER, L14 VDDA1V3_SER, M1 VDDA1V1_CLK_VCO, M2 VSSA, M3 SYNCINB0-, M4 SYNCINB0+, M5 RX1_ENABLE, M6 VSSD, M7 RX2_ENABLE, M8 VSSD, M9 VSSA, M10 GPIO_17, M11 GPIO_16, M12 VDD_INF, M13 VDDA1V3_SER, M14 VDDA1V3_SER, N1 VDDA1V3_CLK_VCO_LDO, N2 VSSA, N3 SERDOUT3-, N4 SERDOUT3+, N5 SERDOUT2-, N6 SERDOUT2+, N7 VSSA, N8 VDDA1V3_SER, N9 VDDA1V3_SER, N10 VDDA1V3_SER, N11 VDDA1V3_SER, N12 VDDA1V3_SER, N13 VDDA1V3_SER, N14 VSSA, P1 AUX_SYNTH_VTUNE, P2 VSSA, P3 VSSA, P4 SERDOUT1-, P5 SERDOUT1+, P6 SERDOUT0-, P7 SERDOUT0+, P8 VDDA1V3_SER, P9 VDDA1V3_SER, P10 VSSA, P11 VDDA1V3_SER, P12 VDDA1V3_SER, P13 VDDA1V3_SER, P14 VDDA1V3_SER

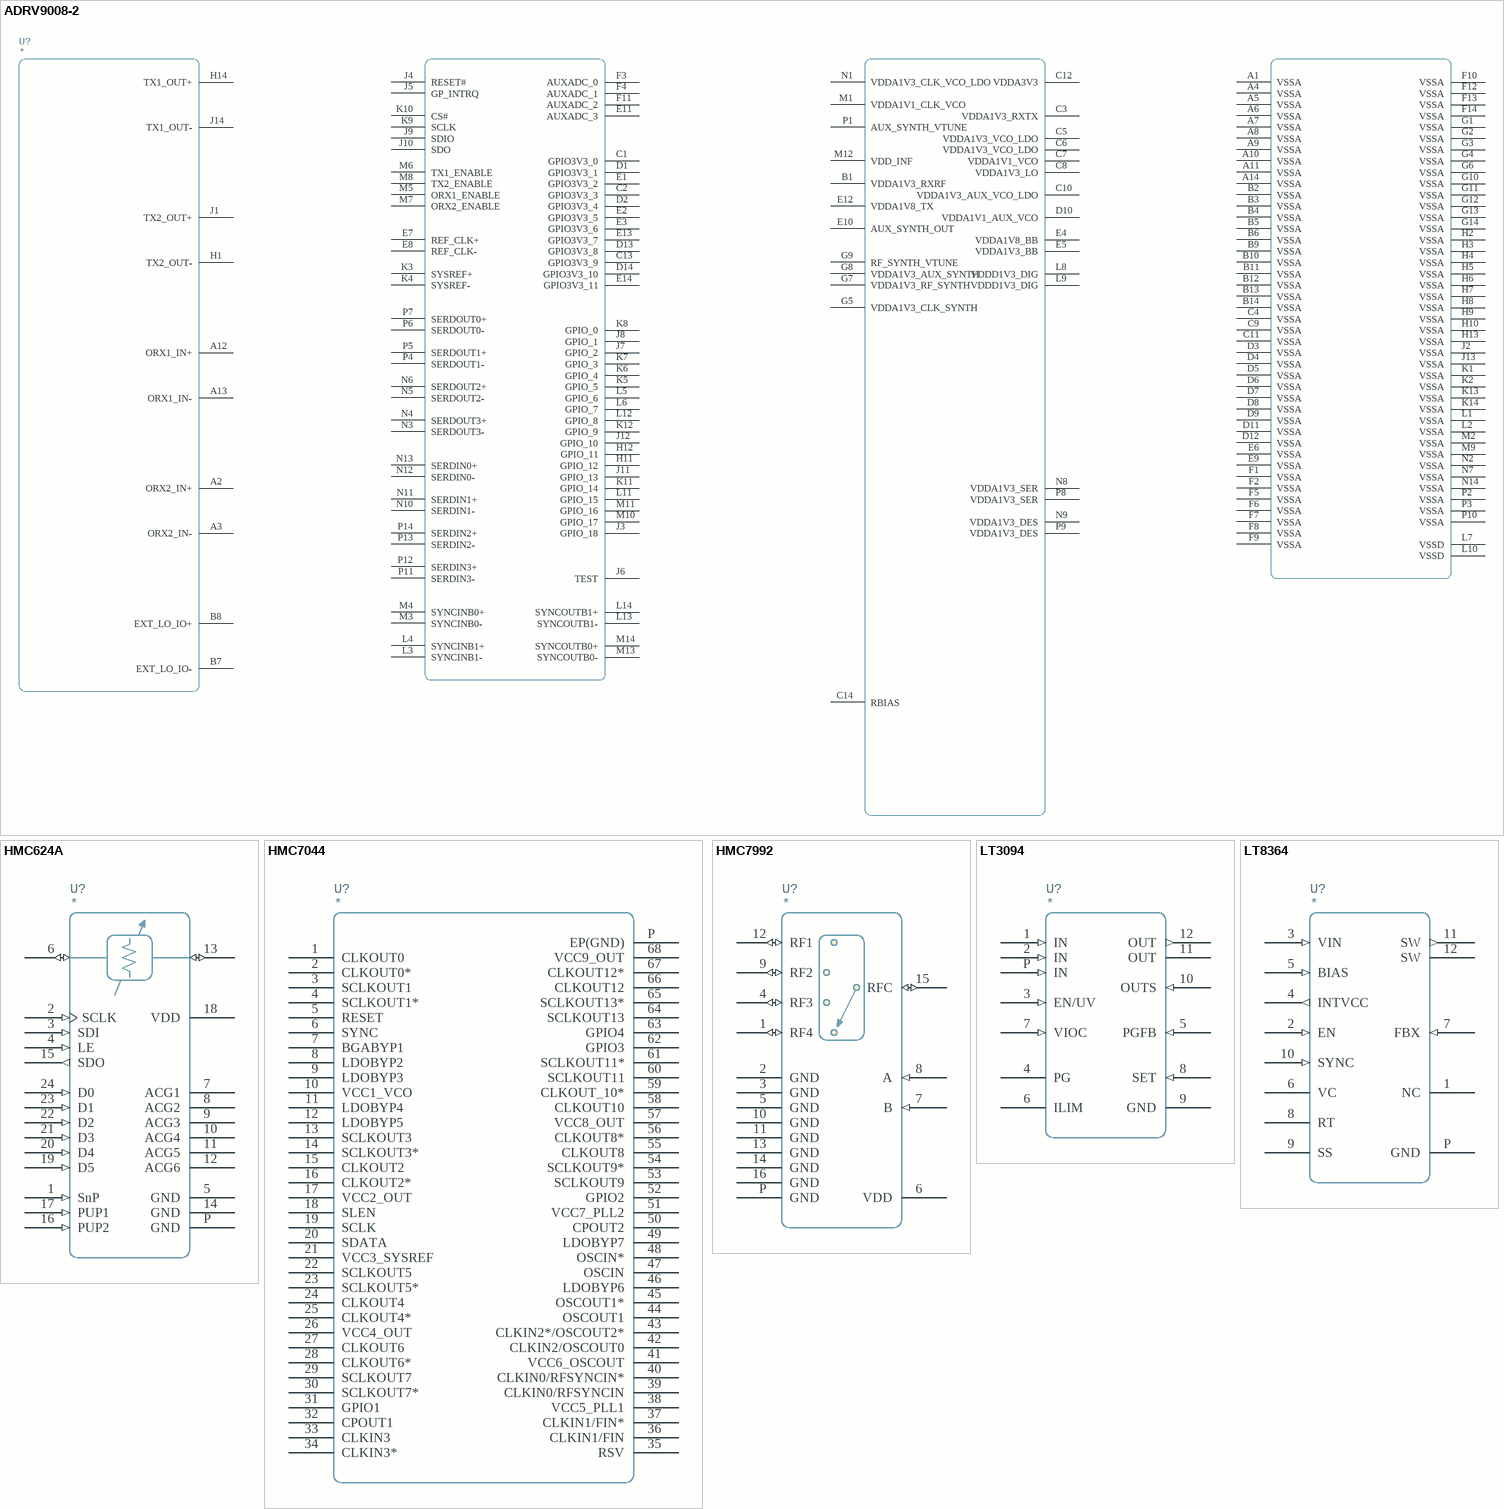
[diagram p6: symbols ADRV9008-2 to LT8364]

## ADRV9008-2
designator U?
pins: A1 VSSA, A2 ORX2_IN+, A3 ORX2_IN-, A4 VSSA, A5 VSSA, A6 VSSA, A7 VSSA, A8 VSSA, A9 VSSA, A10 VSSA, A11 VSSA, A12 ORX1_IN+, A13 ORX1_IN-, A14 VSSA, B1 VDDA1V3_RXRF, B2 VSSA, B3 VSSA, B4 VSSA, B5 VSSA, B6 VSSA, B7 EXT_LO_IO-, B8 EXT_LO_IO+, B9 VSSA, B10 VSSA, B11 VSSA, B12 VSSA, B13 VSSA, B14 VSSA, C1 GPIO3V3_0, C2 GPIO3V3_3, C3 VDDA1V3_RXTX, C4 VSSA, C5 VDDA1V3_VCO_LDO, C6 VDDA1V3_VCO_LDO, C7 VDDA1V1_VCO, C8 VDDA1V3_LO, C9 VSSA, C10 VDDA1V3_AUX_VCO_LDO, C11 VSSA, C12 VDDA3V3, C13 GPIO3V3_9, C14 RBIAS, D1 GPIO3V3_1, D2 GPIO3V3_4, D3 VSSA, D4 VSSA, D5 VSSA, D6 VSSA, D7 VSSA, D8 VSSA, D9 VSSA, D10 VDDA1V1_AUX_VCO, D11 VSSA, D12 VSSA, D13 GPIO3V3_8, D14 GPIO3V3_10, E1 GPIO3V3_2, E2 GPIO3V3_5, E3 GPIO3V3_6, E4 VDDA1V8_BB, E5 VDDA1V3_BB, E6 VSSA, E7 REF_CLK+, E8 REF_CLK-, E9 VSSA, E10 AUX_SYNTH_OUT, E11 AUXADC_3, E12 VDDA1V8_TX, E13 GPIO3V3_7, E14 GPIO3V3_11, F1 VSSA, F2 VSSA, F3 AUXADC_0, F4 AUXADC_1, F5 VSSA, F6 VSSA, F7 VSSA, F8 VSSA, F9 VSSA, F10 VSSA, F11 AUXADC_2, F12 VSSA, F13 VSSA, F14 VSSA, G1 VSSA, G2 VSSA, G3 VSSA, G4 VSSA, G5 VDDA1V3_CLK_SYNTH, G6 VSSA, G7 VDDA1V3_RF_SYNTH, G8 VDDA1V3_AUX_SYNTH, G9 RF_SYNTH_VTUNE, G10 VSSA, G11 VSSA, G12 VSSA, G13 VSSA, G14 VSSA, H1 TX2_OUT-, H2 VSSA, H3 VSSA, H4 VSSA, H5 VSSA, H6 VSSA, H7 VSSA, H8 VSSA, H9 VSSA, H10 VSSA, H11 GPIO_12, H12 GPIO_11, H13 VSSA, H14 TX1_OUT+, J1 TX2_OUT+, J2 VSSA, J3 GPIO_18, J4 RESET#, J5 GP_INTRQ, J6 TEST, J7 GPIO_2, J8 GPIO_1, J9 SDIO, J10 SDO, J11 GPIO_13, J12 GPIO_10, J13 VSSA, J14 TX1_OUT-, K1 VSSA, K2 VSSA, K3 SYSREF+, K4 SYSREF-, K5 GPIO_5, K6 GPIO_4, K7 GPIO_3, K8 GPIO_0, K9 SCLK, K10 CS#, K11 GPIO_14, K12 GPIO_9, K13 VSSA, K14 VSSA, L1 VSSA, L2 VSSA, L3 SYNCINB1-, L4 SYNCINB1+, L5 GPIO_6, L6 GPIO_7, L7 VSSD, L8 VDDD1V3_DIG, L9 VDDD1V3_DIG, L10 VSSD, L11 GPIO_15, L12 GPIO_8, L13 SYNCOUTB1-, L14 SYNCOUTB1+, M1 VDDA1V1_CLK_VCO, M2 VSSA, M3 SYNCINB0-, M4 SYNCINB0+, M5 ORX1_ENABLE, M6 TX1_ENABLE, M7 ORX2_ENABLE, M8 TX2_ENABLE, M9 VSSA, M10 GPIO_17, M11 GPIO_16, M12 VDD_INF, M13 SYNCOUTB0-, M14 SYNCOUTB0+, N1 VDDA1V3_CLK_VCO_LDO, N2 VSSA, N3 SERDOUT3-, N4 SERDOUT3+, N5 SERDOUT2-, N6 SERDOUT2+, N7 VSSA, N8 VDDA1V3_SER, N9 VDDA1V3_DES, N10 SERDIN1-, N11 SERDIN1+, N12 SERDIN0-, N13 SERDIN0+, N14 VSSA, P1 AUX_SYNTH_VTUNE, P2 VSSA, P3 VSSA, P4 SERDOUT1-, P5 SERDOUT1+, P6 SERDOUT0-, P7 SERDOUT0+, P8 VDDA1V3_SER, P9 VDDA1V3_DES, P10 VSSA, P11 SERDIN3-, P12 SERDIN3+, P13 SERDIN2-, P14 SERDIN2+

## HMC624A
designator U?
IC,SM,HMC624ALP4E,DIGITAL ATTENUATOR,DC-6 GHZ,QFN-24,H=.039IN
footprint QFN-4-24
pins: 1 SnP (in), 2 SCLK (in), 3 SDI (in), 4 LE (in), 5 GND, 6 ATTIN (io), 7 ACG1, 8 ACG2, 9 ACG3, 10 ACG4, 11 ACG5, 12 ACG6, 13 ATTOUT (io), 14 GND, 15 SDO (out), 16 PUP2 (in), 17 PUP1 (in), 18 VDD, 19 D5 (in), 20 D4 (in), 21 D3 (in), 22 D2 (in), 23 D1 (in), 24 D0 (in), P GND

## HMC7044
designator U?
pins: 1 CLKOUT0, 2 CLKOUT0*, 3 SCLKOUT1, 4 SCLKOUT1*, 5 RESET, 6 SYNC, 7 BGABYP1, 8 LDOBYP2, 9 LDOBYP3, 10 VCC1_VCO, 11 LDOBYP4, 12 LDOBYP5, 13 SCLKOUT3, 14 SCLKOUT3*, 15 CLKOUT2, 16 CLKOUT2*, 17 VCC2_OUT, 18 SLEN, 19 SCLK, 20 SDATA, 21 VCC3_SYSREF, 22 SCLKOUT5, 23 SCLKOUT5*, 24 CLKOUT4, 25 CLKOUT4*, 26 VCC4_OUT, 27 CLKOUT6, 28 CLKOUT6*, 29 SCLKOUT7, 30 SCLKOUT7*, 31 GPIO1, 32 CPOUT1, 33 CLKIN3, 34 CLKIN3*, 35 RSV, 36 CLKIN1/FIN, 37 CLKIN1/FIN*, 38 VCC5_PLL1, 39 CLKIN0/RFSYNCIN, 40 CLKIN0/RFSYNCIN*, 41 VCC6_OSCOUT, 42 CLKIN2/OSCOUT0, 43 CLKIN2*/OSCOUT2*, 44 OSCOUT1, 45 OSCOUT1*, 46 LDOBYP6, 47 OSCIN, 48 OSCIN*, 49 LDOBYP7, 50 CPOUT2, 51 VCC7_PLL2, 52 GPIO2, 53 SCLKOUT9, 54 SCLKOUT9*, 55 CLKOUT8, 56 CLKOUT8*, 57 VCC8_OUT, 58 CLKOUT10, 59 CLKOUT_10*, 60 SCLKOUT11, 61 SCLKOUT11*, 62 GPIO3, 63 GPIO4, 64 SCLKOUT13, 65 SCLKOUT13*, 66 CLKOUT12, 67 CLKOUT12*, 68 VCC9_OUT, P EP(GND)

## HMC7992
designator U?
pins: 1 RF4 (io), 2 GND, 3 GND, 4 RF3 (io), 5 GND, 6 VDD, 7 B (in), 8 A (in), 9 RF2 (io), 10 GND, 11 GND, 12 RF1 (io), 13 GND, 14 GND, 15 RFC (io), 16 GND, P GND

## LT3094
designator U?
pins: 1 IN (in), 2 IN (in), 3 EN/UV (in), 4 PG (oc), 5 PGFB (in), 6 ILIM, 7 VIOC (in), 8 SET (in), 9 GND, 10 OUTS (in), 11 OUT, 12 OUT (out), P IN (in)

## LT8364
designator U?
pins: 1 NC, 2 EN (in), 3 VIN (in), 4 INTVCC (out), 5 BIAS (in), 6 VC, 7 FBX (in), 8 RT, 9 SS, 10 SYNC (in), 11 SW (out), 12 SW, P GND

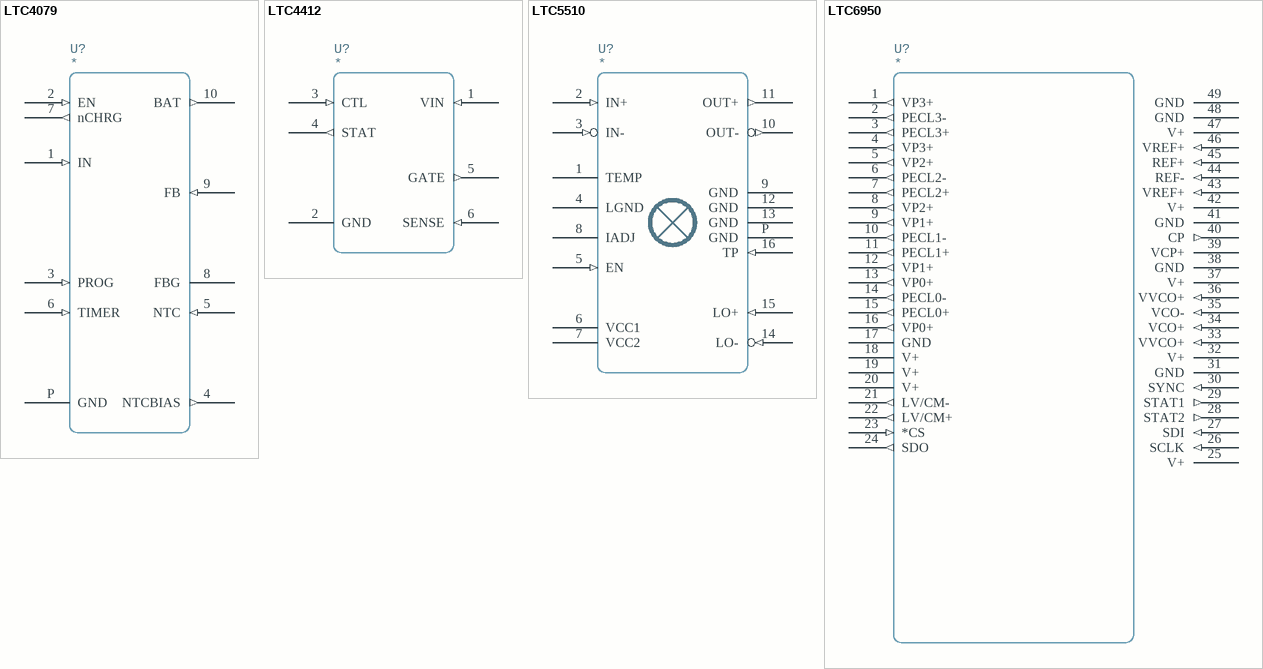
[diagram p7: symbols LTC4079 to LTC6950]

## LTC4079
designator U?
pins: 1 IN (in), 2 EN (in), 3 PROG (in), 4 NTCBIAS (out), 5 NTC (in), 6 TIMER (in), 7 nCHRG (out), 8 FBG, 9 FB (in), 10 BAT (out), P GND

## LTC4412
designator U?
pins: 1 VIN (in), 2 GND, 3 CTL (in), 4 STAT (out), 5 GATE (out), 6 SENSE (in)

## LTC5510
designator U?
pins: 1 TEMP, 2 IN+ (in), 3 IN- (in), 4 LGND, 5 EN (in), 6 VCC1, 7 VCC2, 8 IADJ, 9 GND, 10 OUT- (out), 11 OUT+ (out), 12 GND, 13 GND, 14 LO- (in), 15 LO+ (in), 16 TP (in), P GND (power)

## LTC6950
designator U?
pins: 1 VP3+ (out), 2 PECL3- (out), 3 PECL3+ (out), 4 VP3+ (out), 5 VP2+ (out), 6 PECL2- (out), 7 PECL2+ (out), 8 VP2+ (out), 9 VP1+ (out), 10 PECL1- (out), 11 PECL1+ (out), 12 VP1+ (out), 13 VP0+ (out), 14 PECL0- (out), 15 PECL0+ (out), 16 VP0+ (out), 17 GND (power), 18 V+ (power), 19 V+ (power), 20 V+ (power), 21 LV/CM- (out), 22 LV/CM+ (out), 23 *CS (in), 24 SDO (out), 25 V+ (power), 26 SCLK (in), 27 SDI (in), 28 STAT2 (out), 29 STAT1 (out), 30 SYNC (in), 31 GND (power), 32 V+ (power), 33 VVCO+ (in), 34 VCO+ (in), 35 VCO- (in), 36 VVCO+ (in), 37 V+ (power), 38 GND (power), 39 VCP+ (power), 40 CP (out), 41 GND (power), 42 V+ (power), 43 VREF+ (in), 44 REF- (in), 45 REF+ (in), 46 VREF+ (in), 47 V+ (power), 48 GND (power), 49 GND (power)

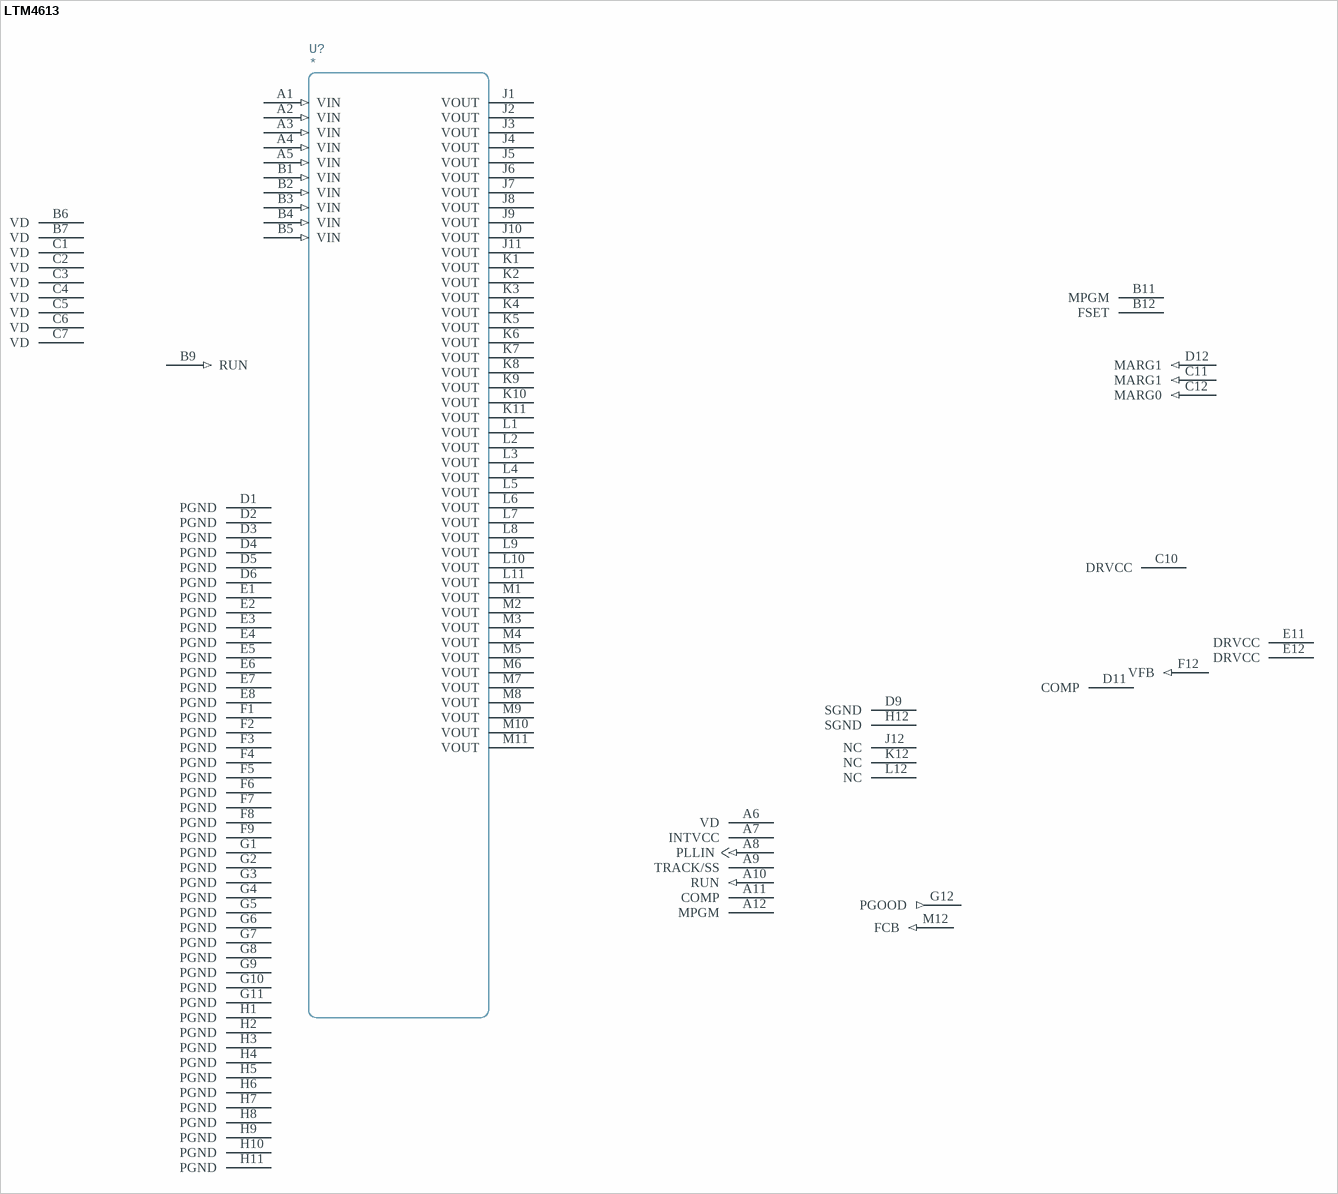
[diagram p8: symbol LTM4613]

## LTM4613
designator U?
pins: A1 VIN (in), A2 VIN (in), A3 VIN (in), A4 VIN (in), A5 VIN (in), A6 VD, A7 INTVCC, A8 PLLIN (in), A9 TRACK/SS, A10 RUN (in), A11 COMP, A12 MPGM, B1 VIN (in), B2 VIN (in), B3 VIN (in), B4 VIN (in), B5 VIN (in), B6 VD, B7 VD, B9 RUN (in), B11 MPGM, B12 FSET, C1 VD, C2 VD, C3 VD, C4 VD, C5 VD, C6 VD, C7 VD, C10 DRVCC, C11 MARG1 (in), C12 MARG0 (in), D1 PGND, D2 PGND, D3 PGND, D4 PGND, D5 PGND, D6 PGND, D9 SGND, D11 COMP, D12 MARG1 (in), E1 PGND, E2 PGND, E3 PGND, E4 PGND, E5 PGND, E6 PGND, E7 PGND, E8 PGND, E11 DRVCC, E12 DRVCC, F1 PGND, F2 PGND, F3 PGND, F4 PGND, F5 PGND, F6 PGND, F7 PGND, F8 PGND, F9 PGND, F12 VFB (in), G1 PGND, G2 PGND, G3 PGND, G4 PGND, G5 PGND, G6 PGND, G7 PGND, G8 PGND, G9 PGND, G10 PGND, G11 PGND, G12 PGOOD (out), H1 PGND, H2 PGND, H3 PGND, H4 PGND, H5 PGND, H6 PGND, H7 PGND, H8 PGND, H9 PGND, H10 PGND, H11 PGND, H12 SGND, J1 VOUT (power), J2 VOUT (power), J3 VOUT (power), J4 VOUT (power), J5 VOUT (power), J6 VOUT (power), J7 VOUT (power), J8 VOUT (power), J9 VOUT (power), J10 VOUT (power), J11 VOUT (power), J12 NC, K1 VOUT (power), K2 VOUT (power), K3 VOUT (power), K4 VOUT (power), K5 VOUT (power), K6 VOUT (power), K7 VOUT (power), K8 VOUT (power), K9 VOUT (power), K10 VOUT (power), K11 VOUT (power), K12 NC, L1 VOUT (power), L2 VOUT (power), L3 VOUT (power), L4 VOUT (power), L5 VOUT (power), L6 VOUT (power), L7 VOUT (power), L8 VOUT (power), L9 VOUT (power), L10 VOUT (power), L11 VOUT (power), L12 NC, M1 VOUT (power), M2 VOUT (power), M3 VOUT (power), M4 VOUT (power), M5 VOUT (power), M6 VOUT (power), M7 VOUT (power), M8 VOUT (power), M9 VOUT (power), M10 VOUT (power), M11 VOUT (power), M12 FCB (in)

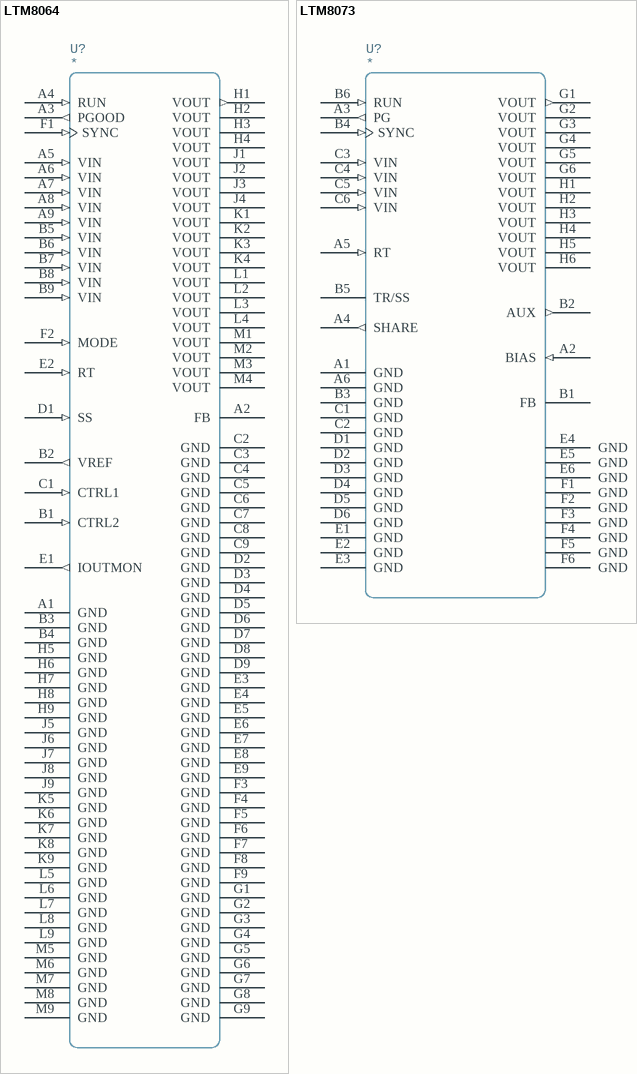
[diagram p9: symbols LTM8064 to LTM8073]

## LTM8064
designator U?
pins: A1 GND, A2 FB, A3 PGOOD (out), A4 RUN (in), A5 VIN (in), A6 VIN (in), A7 VIN (in), A8 VIN (in), A9 VIN (in), B1 CTRL2 (in), B2 VREF (out), B3 GND, B4 GND, B5 VIN (in), B6 VIN (in), B7 VIN (in), B8 VIN (in), B9 VIN (in), C1 CTRL1 (in), C2 GND, C3 GND, C4 GND, C5 GND, C6 GND, C7 GND, C8 GND, C9 GND, D1 SS (in), D2 GND, D3 GND, D4 GND, D5 GND, D6 GND, D7 GND, D8 GND, D9 GND, E1 IOUTMON (out), E2 RT (in), E3 GND, E4 GND, E5 GND, E6 GND, E7 GND, E8 GND, E9 GND, F1 SYNC (in), F2 MODE (in), F3 GND, F4 GND, F5 GND, F6 GND, F7 GND, F8 GND, F9 GND, G1 GND, G2 GND, G3 GND, G4 GND, G5 GND, G6 GND, G7 GND, G8 GND, G9 GND, H1 VOUT (out), H2 VOUT, H3 VOUT, H4 VOUT, H5 GND, H6 GND, H7 GND, H8 GND, H9 GND, J1 VOUT, J2 VOUT, J3 VOUT, J4 VOUT, J5 GND, J6 GND, J7 GND, J8 GND, J9 GND, K1 VOUT, K2 VOUT, K3 VOUT, K4 VOUT, K5 GND, K6 GND, K7 GND, K8 GND, K9 GND, L1 VOUT, L2 VOUT, L3 VOUT, L4 VOUT, L5 GND, L6 GND, L7 GND, L8 GND, L9 GND, M1 VOUT, M2 VOUT, M3 VOUT, M4 VOUT, M5 GND, M6 GND, M7 GND, M8 GND, M9 GND

## LTM8073
designator U?
pins: A1 GND, A2 BIAS (in), A3 PG (out), A4 SHARE (out), A5 RT (in), A6 GND, B1 FB, B2 AUX (out), B3 GND, B4 SYNC (in), B5 TR/SS, B6 RUN (in), C1 GND, C2 GND, C3 VIN (in), C4 VIN (in), C5 VIN (in), C6 VIN (in), D1 GND, D2 GND, D3 GND, D4 GND, D5 GND, D6 GND, E1 GND, E2 GND, E3 GND, E4 GND, E5 GND, E6 GND, F1 GND, F2 GND, F3 GND, F4 GND, F5 GND, F6 GND, G1 VOUT (out), G2 VOUT, G3 VOUT, G4 VOUT, G5 VOUT, G6 VOUT, H1 VOUT, H2 VOUT, H3 VOUT, H4 VOUT, H5 VOUT, H6 VOUT